# Altium integrated library Actel ProASIC3L.IntLib: 284 symbols (part 21 of 42)
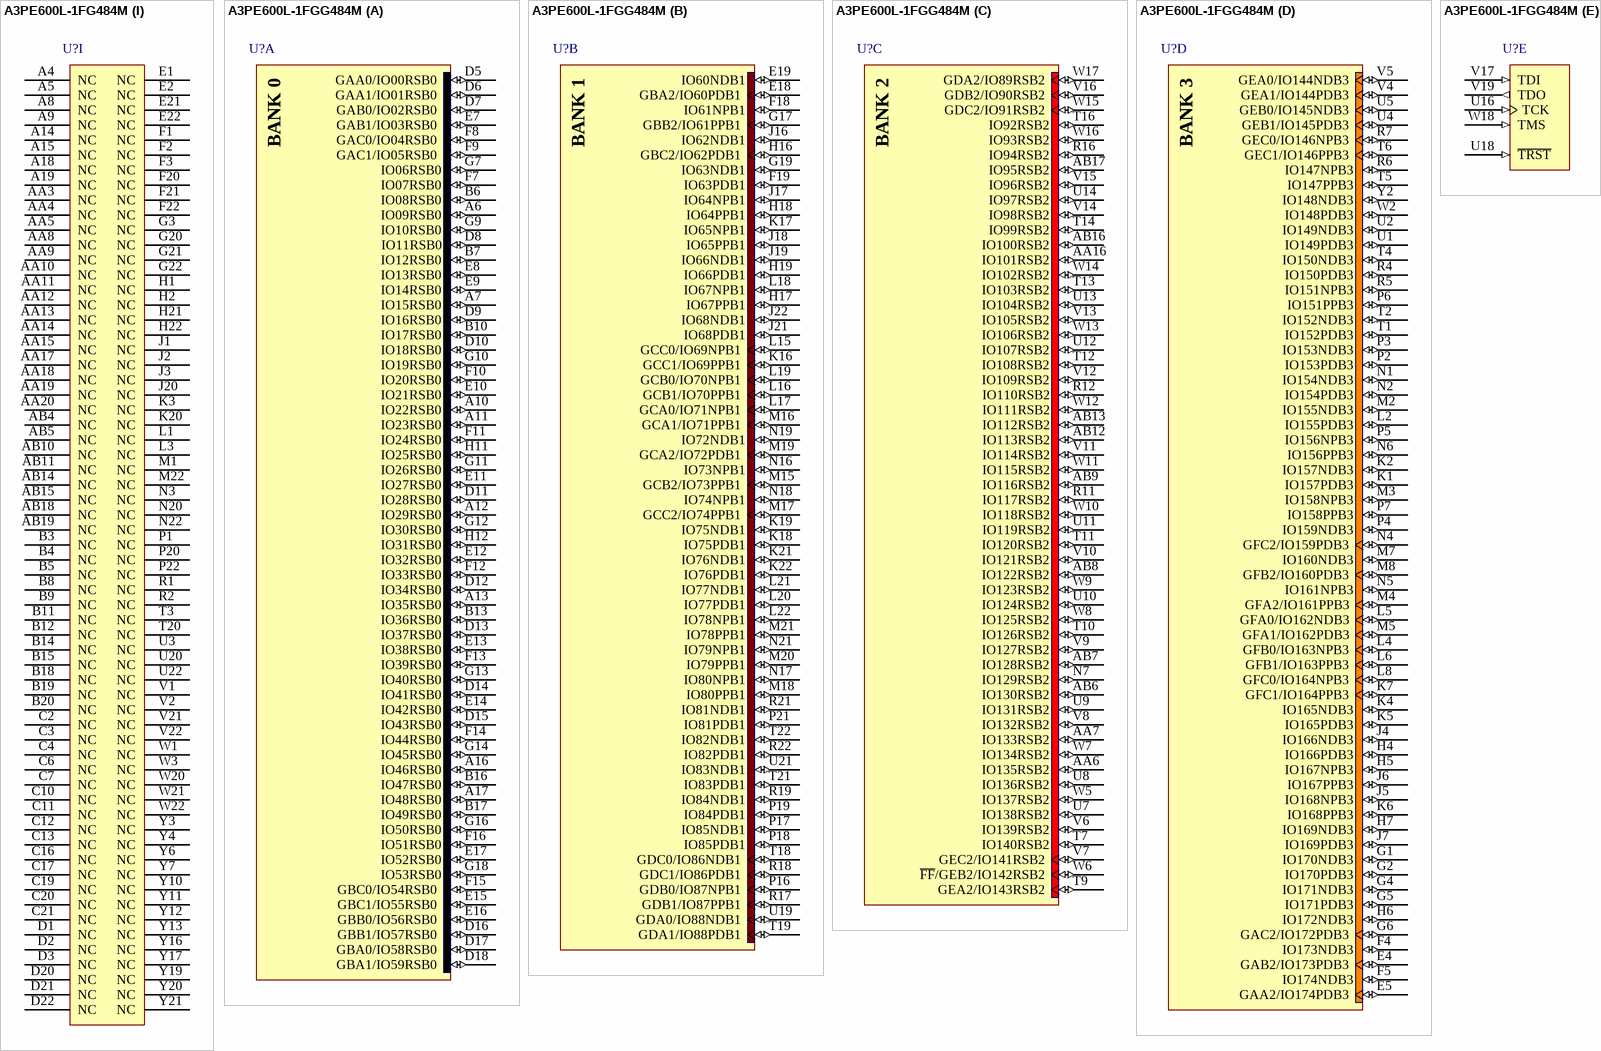
[diagram p270: symbols A3PE600L-1FG484M to A3PE600L-1FGG484M]

## A3PE600L-1FG484M
designator U?
ProASIC3L Low-Power Flash Family FPGA, 270 User IOs, 600K System Gates, 108 Kbits RAM, 1 Kbit FlashROM, 6PLLs, 484-Ball FBGA, Military Grade; Published: 11-Dec-2009; DatasheetVersion: v1.0, Aug-2008; PackageVersion: ver11.2, Nov-2009; PackageReference: FG484; Publisher: Altium Limited; PackageDescription: 484-Ball Fine Pitch Plastic Ball Grid Array (FG484) - Fully Populated; Code_JEDEC: MS-034-AAJ-1; Code_IPC: BGA100P22X22-484; ComponentLink1Description: ProASIC3 Datasheet; ComponentLink1URL: http://www.actel.com/documents/PA3L_DS.pdf; ComponentLink2Description: Package Mechanical Drawings; ComponentLink2URL: http://www.actel.com/documents/PckgMechDrwngs.pdf; ComponentLink3Description: ProASIC3 Documents; ComponentLink3URL: http://www.actel.com/products/pa3l/docs.aspx; ComponentLink4Description: Actel.com Home; ComponentLink4URL: http://www.actel.com/
footprint FG484 (BGA, 484-Leads, Body 23x23mm, Pitch 1mm)
signal-integrity model A3P600L_FG484 (ProASIC3L)
part A pins: A6 IO09RSB0 (io), A7 IO15RSB0 (io), A10 IO22RSB0 (io), A11 IO23RSB0 (io), A12 IO29RSB0 (io), A13 IO35RSB0 (io), A16 IO46RSB0 (io), A17 IO48RSB0 (io), B6 IO08RSB0 (io), B7 IO12RSB0 (io), B10 IO17RSB0 (io), B13 IO36RSB0 (io), B16 IO47RSB0 (io), B17 IO49RSB0 (io), D5 GAA0/IO00RSB0 (io), D6 GAA1/IO01RSB0 (io), D7 GAB0/IO02RSB0 (io), D8 IO11RSB0 (io), D9 IO16RSB0 (io), D10 IO18RSB0 (io), D11 IO28RSB0 (io), D12 IO34RSB0 (io), D13 IO37RSB0 (io), D14 IO41RSB0 (io), D15 IO43RSB0 (io), D16 GBB1/IO57RSB0 (io), D17 GBA0/IO58RSB0 (io), D18 GBA1/IO59RSB0 (io), E7 GAB1/IO03RSB0 (io), E8 IO13RSB0 (io), E9 IO14RSB0 (io), E10 IO21RSB0 (io), E11 IO27RSB0 (io), E12 IO32RSB0 (io), E13 IO38RSB0 (io), E14 IO42RSB0 (io), E15 GBC1/IO55RSB0 (io), E16 GBB0/IO56RSB0 (io), E17 IO52RSB0 (io), F7 IO07RSB0 (io), F8 GAC0/IO04RSB0 (io), F9 GAC1/IO05RSB0 (io), F10 IO20RSB0 (io), F11 IO24RSB0 (io), F12 IO33RSB0 (io), F13 IO39RSB0 (io), F14 IO44RSB0 (io), F15 GBC0/IO54RSB0 (io), F16 IO51RSB0 (io), G7 IO06RSB0 (io), G9 IO10RSB0 (io), G10 IO19RSB0 (io), G11 IO26RSB0 (io), G12 IO30RSB0 (io), G13 IO40RSB0 (io), G14 IO45RSB0 (io), G16 IO50RSB0 (io), G18 IO53RSB0 (io), H11 IO25RSB0 (io), H12 IO31RSB0 (io)
part B pins: E18 GBA2/IO60PDB1 (io), E19 IO60NDB1 (io), F18 IO61NPB1 (io), F19 IO63PDB1 (io), G17 GBB2/IO61PPB1 (io), G19 IO63NDB1 (io), H16 GBC2/IO62PDB1 (io), H17 IO67PPB1 (io), H18 IO64PPB1 (io), H19 IO66PDB1 (io), J16 IO62NDB1 (io), J17 IO64NPB1 (io), J18 IO65PPB1 (io), J19 IO66NDB1 (io), J21 IO68PDB1 (io), J22 IO68NDB1 (io), K16 GCC1/IO69PPB1 (io), K17 IO65NPB1 (io), K18 IO75PDB1 (io), K19 IO75NDB1 (io), K21 IO76NDB1 (io), K22 IO76PDB1 (io), L15 GCC0/IO69NPB1 (io), L16 GCB1/IO70PPB1 (io), L17 GCA0/IO71NPB1 (io), L18 IO67NPB1 (io), L19 GCB0/IO70NPB1 (io), L20 IO77PDB1 (io), L21 IO77NDB1 (io), L22 IO78NPB1 (io), M15 GCB2/IO73PPB1 (io), M16 GCA1/IO71PPB1 (io), M17 GCC2/IO74PPB1 (io), M18 IO80PPB1 (io), M19 GCA2/IO72PDB1 (io), M20 IO79PPB1 (io), M21 IO78PPB1 (io), N16 IO73NPB1 (io), N17 IO80NPB1 (io), N18 IO74NPB1 (io), N19 IO72NDB1 (io), N21 IO79NPB1 (io), P16 GDB0/IO87NPB1 (io), P17 IO85NDB1 (io), P18 IO85PDB1 (io), P19 IO84PDB1 (io), P21 IO81PDB1 (io), R17 GDB1/IO87PPB1 (io), R18 GDC1/IO86PDB1 (io), R19 IO84NDB1 (io), R21 IO81NDB1 (io), R22 IO82PDB1 (io), T18 GDC0/IO86NDB1 (io), T19 GDA1/IO88PDB1 (io), T21 IO83PDB1 (io), T22 IO82NDB1 (io), U19 GDA0/IO88NDB1 (io), U21 IO83NDB1 (io)
part C pins: AA6 IO135RSB2 (io), AA7 IO133RSB2 (io), AA16 IO101RSB2 (io), AB6 IO130RSB2 (io), AB7 IO128RSB2 (io), AB8 IO122RSB2 (io), AB9 IO116RSB2 (io), AB12 IO113RSB2 (io), AB13 IO112RSB2 (io), AB16 IO100RSB2 (io), AB17 IO95RSB2 (io), N7 IO129RSB2 (io), R11 IO117RSB2 (io), R12 IO110RSB2 (io), R16 IO94RSB2 (io), T7 IO140RSB2 (io), T9 GEA2/IO143RSB2 (io), T10 IO126RSB2 (io), T11 IO120RSB2 (io), T12 IO108RSB2 (io), T13 IO103RSB2 (io), T14 IO99RSB2 (io), T16 IO92RSB2 (io), U7 IO138RSB2 (io), U8 IO136RSB2 (io), U9 IO131RSB2 (io), U10 IO124RSB2 (io), U11 IO119RSB2 (io), U12 IO107RSB2 (io), U13 IO104RSB2 (io), U14 IO97RSB2 (io), V6 IO139RSB2 (io), V7 GEC2/IO141RSB2 (io), V8 IO132RSB2 (io), V9 IO127RSB2 (io), V10 IO121RSB2 (io), V11 IO114RSB2 (io), V12 IO109RSB2 (io), V13 IO105RSB2 (io), V14 IO98RSB2 (io), V15 IO96RSB2 (io), V16 GDB2/IO90RSB2 (io), W5 IO137RSB2 (io), W6 ~{FF}/GEB2/IO142RSB2 (io), W7 IO134RSB2 (io), W8 IO125RSB2 (io), W9 IO123RSB2 (io), W10 IO118RSB2 (io), W11 IO115RSB2 (io), W12 IO111RSB2 (io), W13 IO106RSB2 (io), W14 IO102RSB2 (io), W15 GDC2/IO91RSB2 (io), W16 IO93RSB2 (io), W17 GDA2/IO89RSB2 (io)
part D pins: E4 GAB2/IO173PDB3 (io), E5 GAA2/IO174PDB3 (io), F4 IO173NDB3 (io), F5 IO174NDB3 (io), G1 IO170NDB3 (io), G2 IO170PDB3 (io), G4 IO171NDB3 (io), G5 IO171PDB3 (io), G6 GAC2/IO172PDB3 (io), H4 IO166PDB3 (io), H5 IO167NPB3 (io), H6 IO172NDB3 (io), H7 IO169NDB3 (io), J4 IO166NDB3 (io), J5 IO168NPB3 (io), J6 IO167PPB3 (io), J7 IO169PDB3 (io), K1 IO157PDB3 (io), K2 IO157NDB3 (io), K4 IO165NDB3 (io), K5 IO165PDB3 (io), K6 IO168PPB3 (io), K7 GFC1/IO164PPB3 (io), L2 IO155PDB3 (io), L4 GFB0/IO163NPB3 (io), L5 GFA0/IO162NDB3 (io), L6 GFB1/IO163PPB3 (io), L8 GFC0/IO164NPB3 (io), M2 IO155NDB3 (io), M3 IO158NPB3 (io), M4 GFA2/IO161PPB3 (io), M5 GFA1/IO162PDB3 (io), M7 IO160NDB3 (io), M8 GFB2/IO160PDB3 (io), N1 IO154NDB3 (io), N2 IO154PDB3 (io), N4 GFC2/IO159PDB3 (io), N5 IO161NPB3 (io), N6 IO156PPB3 (io), P2 IO153PDB3 (io), P3 IO153NDB3 (io), P4 IO159NDB3 (io), P5 IO156NPB3 (io), P6 IO151PPB3 (io), P7 IO158PPB3 (io), R4 IO150PDB3 (io), R5 IO151NPB3 (io), R6 IO147NPB3 (io), R7 GEC0/IO146NPB3 (io), T1 IO152PDB3 (io), T2 IO152NDB3 (io), T4 IO150NDB3 (io), T5 IO147PPB3 (io), T6 GEC1/IO146PPB3 (io), U1 IO149PDB3 (io), U2 IO149NDB3 (io), U4 GEB1/IO145PDB3 (io), U5 GEB0/IO145NDB3 (io), V4 GEA1/IO144PDB3 (io), V5 GEA0/IO144NDB3 (io), W2 IO148PDB3 (io), Y2 IO148NDB3 (io)
part E pins: U16 TCK (in), U18 ~{TRST} (in), V17 TDI (in), V19 TDO (out), W18 TMS (in)
part F pins: A3 VCCIB0 (power), A20 VCCIB0 (power), AA2 VCCIB3 (power), AA21 VCCIB1 (power), AB3 VCCIB2 (power), AB20 VCCIB2 (power), B2 VCCIB3 (power), B21 VCCIB1 (power), C1 VCCIB3 (power), C8 VCC (power), C9 VCC (power), C14 VCC (power), C15 VCC (power), C22 VCCIB1 (power), F6 VMV3 (power), F17 VMV0 (power), H3 VCC (power), H8 VMV0 (power), H9 VCCIB0 (power), H10 VCCIB0 (power), H13 VCCIB0 (power), H14 VCCIB0 (power), H15 VMV1 (power), H20 VCC (power), J8 VCCIB3 (power), J10 VCC (power), J11 VCC (power), J12 VCC (power), J13 VCC (power), J15 VCCIB1 (power), K8 VCCIB3 (power), K9 VCC (power), K14 VCC (power), K15 VCCIB1 (power), L9 VCC (power), L14 VCC (power), M9 VCC (power), M14 VCC (power), N8 VCCIB3 (power), N9 VCC (power), N14 VCC (power), N15 VCCIB1 (power), P8 VCCIB3 (power), P10 VCC (power), P11 VCC (power), P12 VCC (power), P13 VCC (power), P15 VCCIB1 (power), R3 VCC (power), R8 VMV3 (power), R9 VCCIB2 (power), R10 VCCIB2 (power), R13 VCCIB2 (power), R14 VCCIB2 (power), R15 VMV2 (power), R20 VCC (power), T17 VJTAG (power), U6 VMV2 (power), U15 VMV1 (power), U17 VPUMP (power), Y1 VCCIB3 (power), Y8 VCC (power), Y9 VCC (power), Y14 VCC (power), Y15 VCC (power), Y22 VCCIB1 (power)
part G pins: A1 GND (power), A2 GND (power), A21 GND (power), A22 GND (power), AA1 GND (power), AA22 GND (power), AB1 GND (power), AB2 GND (power), AB21 GND (power), AB22 GND (power), B1 GND (power), B22 GND (power), C5 GND (power), C18 GND (power), D4 GND (power), D19 GND (power), E3 GND (power), E6 GNDQ (power), E20 GND (power), G8 GNDQ (power), G15 GNDQ (power), J9 GND (power), J14 GND (power), K10 GND (power), K11 GND (power), K12 GND (power), K13 GND (power), L10 GND (power), L11 GND (power), L12 GND (power), L13 GND (power), M10 GND (power), M11 GND (power), M12 GND (power), M13 GND (power), N10 GND (power), N11 GND (power), N12 GND (power), N13 GND (power), P9 GND (power), P14 GND (power), T8 GNDQ (power), T15 GNDQ (power), V3 GND (power), V18 GNDQ (power), V20 GND (power), W4 GND (power), W19 GND (power), Y5 GND (power), Y18 GND (power)
part H pins: L7 VCOMPLF (power), M6 VCCPLF (power)
part I pins: A4 NC, A5 NC, A8 NC, A9 NC, A14 NC, A15 NC, A18 NC, A19 NC, AA3 NC, AA4 NC, AA5 NC, AA8 NC, AA9 NC, AA10 NC, AA11 NC, AA12 NC, AA13 NC, AA14 NC, AA15 NC, AA17 NC, AA18 NC, AA19 NC, AA20 NC, AB4 NC, AB5 NC, AB10 NC, AB11 NC, AB14 NC, AB15 NC, AB18 NC, AB19 NC, B3 NC, B4 NC, B5 NC, B8 NC, B9 NC, B11 NC, B12 NC, B14 NC, B15 NC, B18 NC, B19 NC, B20 NC, C2 NC, C3 NC, C4 NC, C6 NC, C7 NC, C10 NC, C11 NC, C12 NC, C13 NC, C16 NC, C17 NC, C19 NC, C20 NC, C21 NC, D1 NC, D2 NC, D3 NC, D20 NC, D21 NC, D22 NC, E1 NC, E2 NC, E21 NC, E22 NC, F1 NC, F2 NC, F3 NC, F20 NC, F21 NC, F22 NC, G3 NC, G20 NC, G21 NC, G22 NC, H1 NC, H2 NC, H21 NC, H22 NC, J1 NC, J2 NC, J3 NC, J20 NC, K3 NC, K20 NC, L1 NC, L3 NC, M1 NC, M22 NC, N3 NC, N20 NC, N22 NC, P1 NC, P20 NC, P22 NC, R1 NC, R2 NC, T3 NC, T20 NC, U3 NC, U20 NC, U22 NC, V1 NC, V2 NC, V21 NC, V22 NC, W1 NC, W3 NC, W20 NC, W21 NC, W22 NC, Y3 NC, Y4 NC, Y6 NC, Y7 NC, Y10 NC, Y11 NC, Y12 NC, Y13 NC, Y16 NC, Y17 NC, Y19 NC, Y20 NC, Y21 NC
part A text: BANK 0
part B text: BANK 1
part C text: BANK 2
part D text: BANK 3

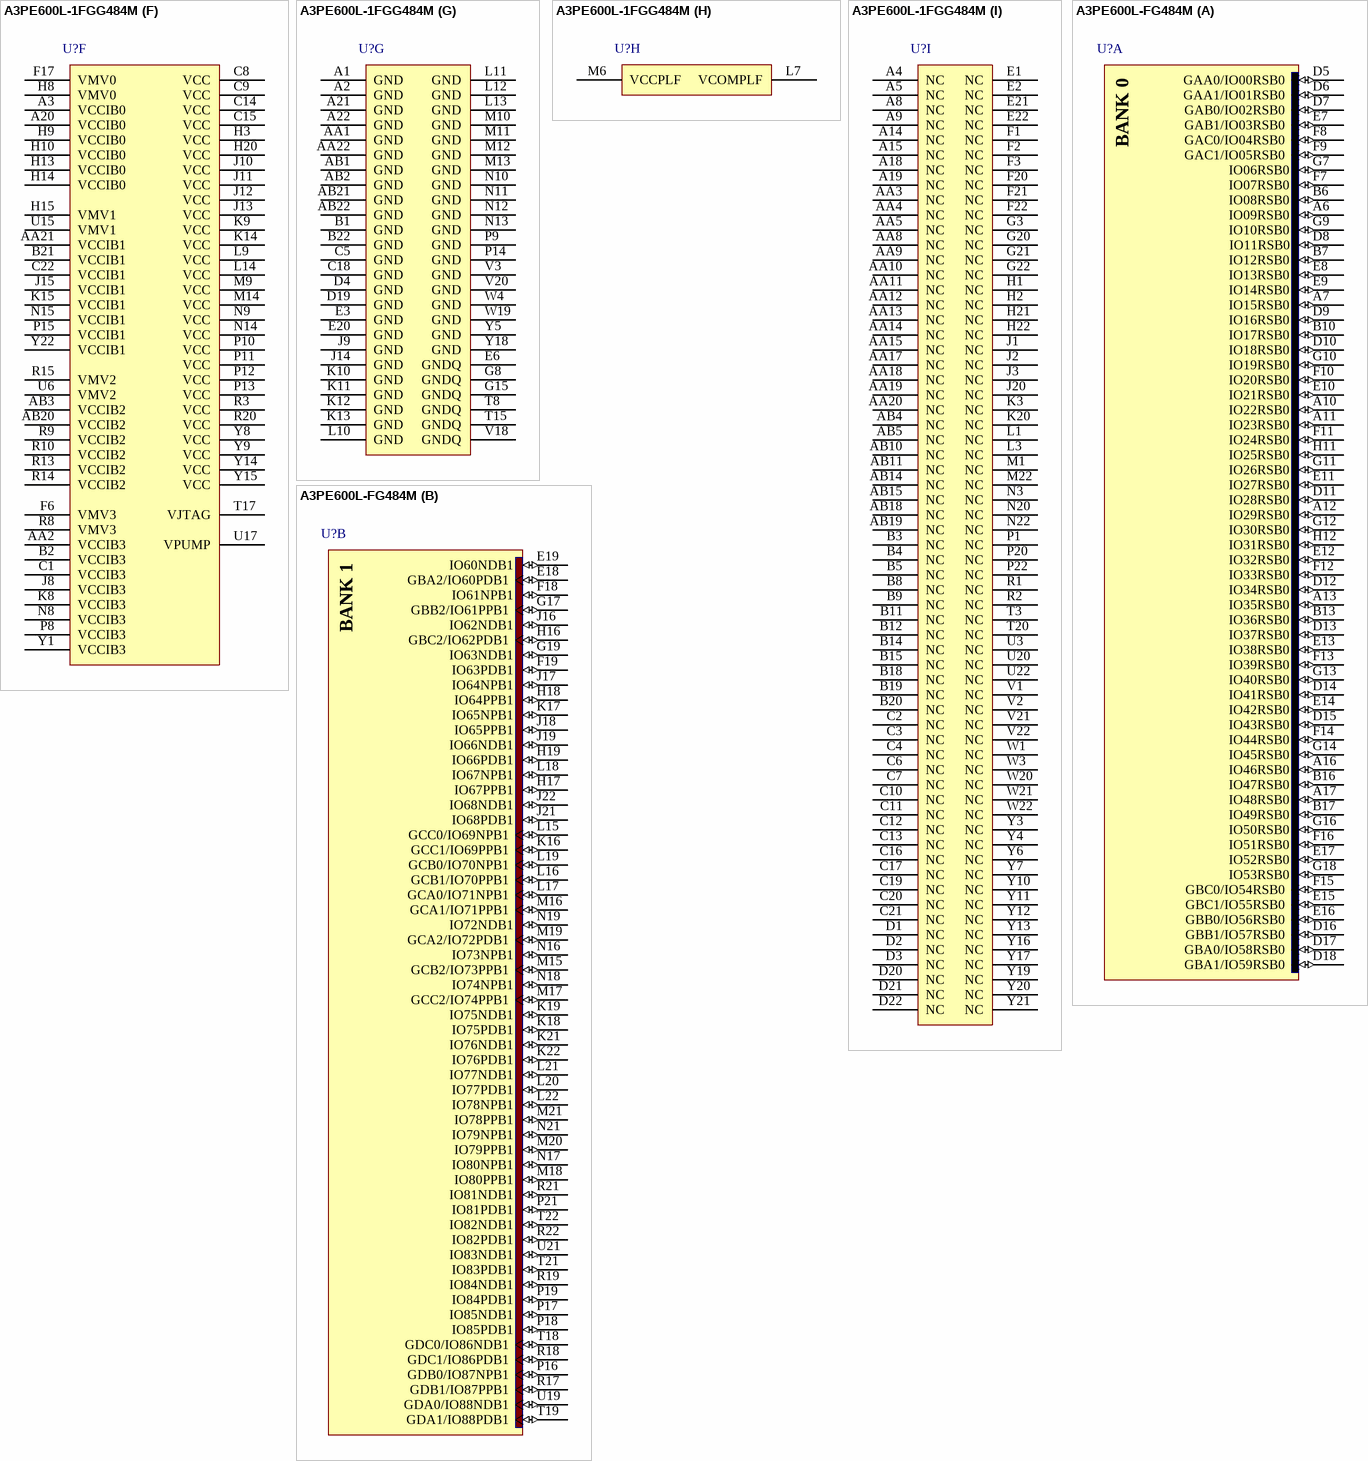
[diagram p75: symbols A3PE600L-1FGG484M to A3PE600L-FG484M]

## A3PE600L-1FGG484M
designator U?
ProASIC3L Low-Power Flash Family FPGA, 270 User IOs, 600K System Gates, 108 Kbits RAM, 1 Kbit FlashROM, 6PLLs, 484-Ball FBGA, Military Grade, Pb-Free; Published: 11-Dec-2009; DatasheetVersion: v1.0, Aug-2008; PackageVersion: ver11.2, Nov-2009; PackageReference: FG484; Publisher: Altium Limited; PackageDescription: 484-Ball Fine Pitch Plastic Ball Grid Array (FG484) - Fully Populated; Code_JEDEC: MS-034-AAJ-1; Code_IPC: BGA100P22X22-484; ComponentLink1Description: ProASIC3 Datasheet; ComponentLink1URL: http://www.actel.com/documents/PA3L_DS.pdf; ComponentLink2Description: Package Mechanical Drawings; ComponentLink2URL: http://www.actel.com/documents/PckgMechDrwngs.pdf; ComponentLink3Description: ProASIC3 Documents; ComponentLink3URL: http://www.actel.com/products/pa3l/docs.aspx; ComponentLink4Description: Actel.com Home; ComponentLink4URL: http://www.actel.com/
footprint FG484 (BGA, 484-Leads, Body 23x23mm, Pitch 1mm)
signal-integrity model A3P600L_FG484 (ProASIC3L)
part A pins: A6 IO09RSB0 (io), A7 IO15RSB0 (io), A10 IO22RSB0 (io), A11 IO23RSB0 (io), A12 IO29RSB0 (io), A13 IO35RSB0 (io), A16 IO46RSB0 (io), A17 IO48RSB0 (io), B6 IO08RSB0 (io), B7 IO12RSB0 (io), B10 IO17RSB0 (io), B13 IO36RSB0 (io), B16 IO47RSB0 (io), B17 IO49RSB0 (io), D5 GAA0/IO00RSB0 (io), D6 GAA1/IO01RSB0 (io), D7 GAB0/IO02RSB0 (io), D8 IO11RSB0 (io), D9 IO16RSB0 (io), D10 IO18RSB0 (io), D11 IO28RSB0 (io), D12 IO34RSB0 (io), D13 IO37RSB0 (io), D14 IO41RSB0 (io), D15 IO43RSB0 (io), D16 GBB1/IO57RSB0 (io), D17 GBA0/IO58RSB0 (io), D18 GBA1/IO59RSB0 (io), E7 GAB1/IO03RSB0 (io), E8 IO13RSB0 (io), E9 IO14RSB0 (io), E10 IO21RSB0 (io), E11 IO27RSB0 (io), E12 IO32RSB0 (io), E13 IO38RSB0 (io), E14 IO42RSB0 (io), E15 GBC1/IO55RSB0 (io), E16 GBB0/IO56RSB0 (io), E17 IO52RSB0 (io), F7 IO07RSB0 (io), F8 GAC0/IO04RSB0 (io), F9 GAC1/IO05RSB0 (io), F10 IO20RSB0 (io), F11 IO24RSB0 (io), F12 IO33RSB0 (io), F13 IO39RSB0 (io), F14 IO44RSB0 (io), F15 GBC0/IO54RSB0 (io), F16 IO51RSB0 (io), G7 IO06RSB0 (io), G9 IO10RSB0 (io), G10 IO19RSB0 (io), G11 IO26RSB0 (io), G12 IO30RSB0 (io), G13 IO40RSB0 (io), G14 IO45RSB0 (io), G16 IO50RSB0 (io), G18 IO53RSB0 (io), H11 IO25RSB0 (io), H12 IO31RSB0 (io)
part B pins: E18 GBA2/IO60PDB1 (io), E19 IO60NDB1 (io), F18 IO61NPB1 (io), F19 IO63PDB1 (io), G17 GBB2/IO61PPB1 (io), G19 IO63NDB1 (io), H16 GBC2/IO62PDB1 (io), H17 IO67PPB1 (io), H18 IO64PPB1 (io), H19 IO66PDB1 (io), J16 IO62NDB1 (io), J17 IO64NPB1 (io), J18 IO65PPB1 (io), J19 IO66NDB1 (io), J21 IO68PDB1 (io), J22 IO68NDB1 (io), K16 GCC1/IO69PPB1 (io), K17 IO65NPB1 (io), K18 IO75PDB1 (io), K19 IO75NDB1 (io), K21 IO76NDB1 (io), K22 IO76PDB1 (io), L15 GCC0/IO69NPB1 (io), L16 GCB1/IO70PPB1 (io), L17 GCA0/IO71NPB1 (io), L18 IO67NPB1 (io), L19 GCB0/IO70NPB1 (io), L20 IO77PDB1 (io), L21 IO77NDB1 (io), L22 IO78NPB1 (io), M15 GCB2/IO73PPB1 (io), M16 GCA1/IO71PPB1 (io), M17 GCC2/IO74PPB1 (io), M18 IO80PPB1 (io), M19 GCA2/IO72PDB1 (io), M20 IO79PPB1 (io), M21 IO78PPB1 (io), N16 IO73NPB1 (io), N17 IO80NPB1 (io), N18 IO74NPB1 (io), N19 IO72NDB1 (io), N21 IO79NPB1 (io), P16 GDB0/IO87NPB1 (io), P17 IO85NDB1 (io), P18 IO85PDB1 (io), P19 IO84PDB1 (io), P21 IO81PDB1 (io), R17 GDB1/IO87PPB1 (io), R18 GDC1/IO86PDB1 (io), R19 IO84NDB1 (io), R21 IO81NDB1 (io), R22 IO82PDB1 (io), T18 GDC0/IO86NDB1 (io), T19 GDA1/IO88PDB1 (io), T21 IO83PDB1 (io), T22 IO82NDB1 (io), U19 GDA0/IO88NDB1 (io), U21 IO83NDB1 (io)
part C pins: AA6 IO135RSB2 (io), AA7 IO133RSB2 (io), AA16 IO101RSB2 (io), AB6 IO130RSB2 (io), AB7 IO128RSB2 (io), AB8 IO122RSB2 (io), AB9 IO116RSB2 (io), AB12 IO113RSB2 (io), AB13 IO112RSB2 (io), AB16 IO100RSB2 (io), AB17 IO95RSB2 (io), N7 IO129RSB2 (io), R11 IO117RSB2 (io), R12 IO110RSB2 (io), R16 IO94RSB2 (io), T7 IO140RSB2 (io), T9 GEA2/IO143RSB2 (io), T10 IO126RSB2 (io), T11 IO120RSB2 (io), T12 IO108RSB2 (io), T13 IO103RSB2 (io), T14 IO99RSB2 (io), T16 IO92RSB2 (io), U7 IO138RSB2 (io), U8 IO136RSB2 (io), U9 IO131RSB2 (io), U10 IO124RSB2 (io), U11 IO119RSB2 (io), U12 IO107RSB2 (io), U13 IO104RSB2 (io), U14 IO97RSB2 (io), V6 IO139RSB2 (io), V7 GEC2/IO141RSB2 (io), V8 IO132RSB2 (io), V9 IO127RSB2 (io), V10 IO121RSB2 (io), V11 IO114RSB2 (io), V12 IO109RSB2 (io), V13 IO105RSB2 (io), V14 IO98RSB2 (io), V15 IO96RSB2 (io), V16 GDB2/IO90RSB2 (io), W5 IO137RSB2 (io), W6 ~{FF}/GEB2/IO142RSB2 (io), W7 IO134RSB2 (io), W8 IO125RSB2 (io), W9 IO123RSB2 (io), W10 IO118RSB2 (io), W11 IO115RSB2 (io), W12 IO111RSB2 (io), W13 IO106RSB2 (io), W14 IO102RSB2 (io), W15 GDC2/IO91RSB2 (io), W16 IO93RSB2 (io), W17 GDA2/IO89RSB2 (io)
part D pins: E4 GAB2/IO173PDB3 (io), E5 GAA2/IO174PDB3 (io), F4 IO173NDB3 (io), F5 IO174NDB3 (io), G1 IO170NDB3 (io), G2 IO170PDB3 (io), G4 IO171NDB3 (io), G5 IO171PDB3 (io), G6 GAC2/IO172PDB3 (io), H4 IO166PDB3 (io), H5 IO167NPB3 (io), H6 IO172NDB3 (io), H7 IO169NDB3 (io), J4 IO166NDB3 (io), J5 IO168NPB3 (io), J6 IO167PPB3 (io), J7 IO169PDB3 (io), K1 IO157PDB3 (io), K2 IO157NDB3 (io), K4 IO165NDB3 (io), K5 IO165PDB3 (io), K6 IO168PPB3 (io), K7 GFC1/IO164PPB3 (io), L2 IO155PDB3 (io), L4 GFB0/IO163NPB3 (io), L5 GFA0/IO162NDB3 (io), L6 GFB1/IO163PPB3 (io), L8 GFC0/IO164NPB3 (io), M2 IO155NDB3 (io), M3 IO158NPB3 (io), M4 GFA2/IO161PPB3 (io), M5 GFA1/IO162PDB3 (io), M7 IO160NDB3 (io), M8 GFB2/IO160PDB3 (io), N1 IO154NDB3 (io), N2 IO154PDB3 (io), N4 GFC2/IO159PDB3 (io), N5 IO161NPB3 (io), N6 IO156PPB3 (io), P2 IO153PDB3 (io), P3 IO153NDB3 (io), P4 IO159NDB3 (io), P5 IO156NPB3 (io), P6 IO151PPB3 (io), P7 IO158PPB3 (io), R4 IO150PDB3 (io), R5 IO151NPB3 (io), R6 IO147NPB3 (io), R7 GEC0/IO146NPB3 (io), T1 IO152PDB3 (io), T2 IO152NDB3 (io), T4 IO150NDB3 (io), T5 IO147PPB3 (io), T6 GEC1/IO146PPB3 (io), U1 IO149PDB3 (io), U2 IO149NDB3 (io), U4 GEB1/IO145PDB3 (io), U5 GEB0/IO145NDB3 (io), V4 GEA1/IO144PDB3 (io), V5 GEA0/IO144NDB3 (io), W2 IO148PDB3 (io), Y2 IO148NDB3 (io)
part E pins: U16 TCK (in), U18 ~{TRST} (in), V17 TDI (in), V19 TDO (out), W18 TMS (in)
part F pins: A3 VCCIB0 (power), A20 VCCIB0 (power), AA2 VCCIB3 (power), AA21 VCCIB1 (power), AB3 VCCIB2 (power), AB20 VCCIB2 (power), B2 VCCIB3 (power), B21 VCCIB1 (power), C1 VCCIB3 (power), C8 VCC (power), C9 VCC (power), C14 VCC (power), C15 VCC (power), C22 VCCIB1 (power), F6 VMV3 (power), F17 VMV0 (power), H3 VCC (power), H8 VMV0 (power), H9 VCCIB0 (power), H10 VCCIB0 (power), H13 VCCIB0 (power), H14 VCCIB0 (power), H15 VMV1 (power), H20 VCC (power), J8 VCCIB3 (power), J10 VCC (power), J11 VCC (power), J12 VCC (power), J13 VCC (power), J15 VCCIB1 (power), K8 VCCIB3 (power), K9 VCC (power), K14 VCC (power), K15 VCCIB1 (power), L9 VCC (power), L14 VCC (power), M9 VCC (power), M14 VCC (power), N8 VCCIB3 (power), N9 VCC (power), N14 VCC (power), N15 VCCIB1 (power), P8 VCCIB3 (power), P10 VCC (power), P11 VCC (power), P12 VCC (power), P13 VCC (power), P15 VCCIB1 (power), R3 VCC (power), R8 VMV3 (power), R9 VCCIB2 (power), R10 VCCIB2 (power), R13 VCCIB2 (power), R14 VCCIB2 (power), R15 VMV2 (power), R20 VCC (power), T17 VJTAG (power), U6 VMV2 (power), U15 VMV1 (power), U17 VPUMP (power), Y1 VCCIB3 (power), Y8 VCC (power), Y9 VCC (power), Y14 VCC (power), Y15 VCC (power), Y22 VCCIB1 (power)
part G pins: A1 GND (power), A2 GND (power), A21 GND (power), A22 GND (power), AA1 GND (power), AA22 GND (power), AB1 GND (power), AB2 GND (power), AB21 GND (power), AB22 GND (power), B1 GND (power), B22 GND (power), C5 GND (power), C18 GND (power), D4 GND (power), D19 GND (power), E3 GND (power), E6 GNDQ (power), E20 GND (power), G8 GNDQ (power), G15 GNDQ (power), J9 GND (power), J14 GND (power), K10 GND (power), K11 GND (power), K12 GND (power), K13 GND (power), L10 GND (power), L11 GND (power), L12 GND (power), L13 GND (power), M10 GND (power), M11 GND (power), M12 GND (power), M13 GND (power), N10 GND (power), N11 GND (power), N12 GND (power), N13 GND (power), P9 GND (power), P14 GND (power), T8 GNDQ (power), T15 GNDQ (power), V3 GND (power), V18 GNDQ (power), V20 GND (power), W4 GND (power), W19 GND (power), Y5 GND (power), Y18 GND (power)
part H pins: L7 VCOMPLF (power), M6 VCCPLF (power)
part I pins: A4 NC, A5 NC, A8 NC, A9 NC, A14 NC, A15 NC, A18 NC, A19 NC, AA3 NC, AA4 NC, AA5 NC, AA8 NC, AA9 NC, AA10 NC, AA11 NC, AA12 NC, AA13 NC, AA14 NC, AA15 NC, AA17 NC, AA18 NC, AA19 NC, AA20 NC, AB4 NC, AB5 NC, AB10 NC, AB11 NC, AB14 NC, AB15 NC, AB18 NC, AB19 NC, B3 NC, B4 NC, B5 NC, B8 NC, B9 NC, B11 NC, B12 NC, B14 NC, B15 NC, B18 NC, B19 NC, B20 NC, C2 NC, C3 NC, C4 NC, C6 NC, C7 NC, C10 NC, C11 NC, C12 NC, C13 NC, C16 NC, C17 NC, C19 NC, C20 NC, C21 NC, D1 NC, D2 NC, D3 NC, D20 NC, D21 NC, D22 NC, E1 NC, E2 NC, E21 NC, E22 NC, F1 NC, F2 NC, F3 NC, F20 NC, F21 NC, F22 NC, G3 NC, G20 NC, G21 NC, G22 NC, H1 NC, H2 NC, H21 NC, H22 NC, J1 NC, J2 NC, J3 NC, J20 NC, K3 NC, K20 NC, L1 NC, L3 NC, M1 NC, M22 NC, N3 NC, N20 NC, N22 NC, P1 NC, P20 NC, P22 NC, R1 NC, R2 NC, T3 NC, T20 NC, U3 NC, U20 NC, U22 NC, V1 NC, V2 NC, V21 NC, V22 NC, W1 NC, W3 NC, W20 NC, W21 NC, W22 NC, Y3 NC, Y4 NC, Y6 NC, Y7 NC, Y10 NC, Y11 NC, Y12 NC, Y13 NC, Y16 NC, Y17 NC, Y19 NC, Y20 NC, Y21 NC
part A text: BANK 0
part B text: BANK 1
part C text: BANK 2
part D text: BANK 3

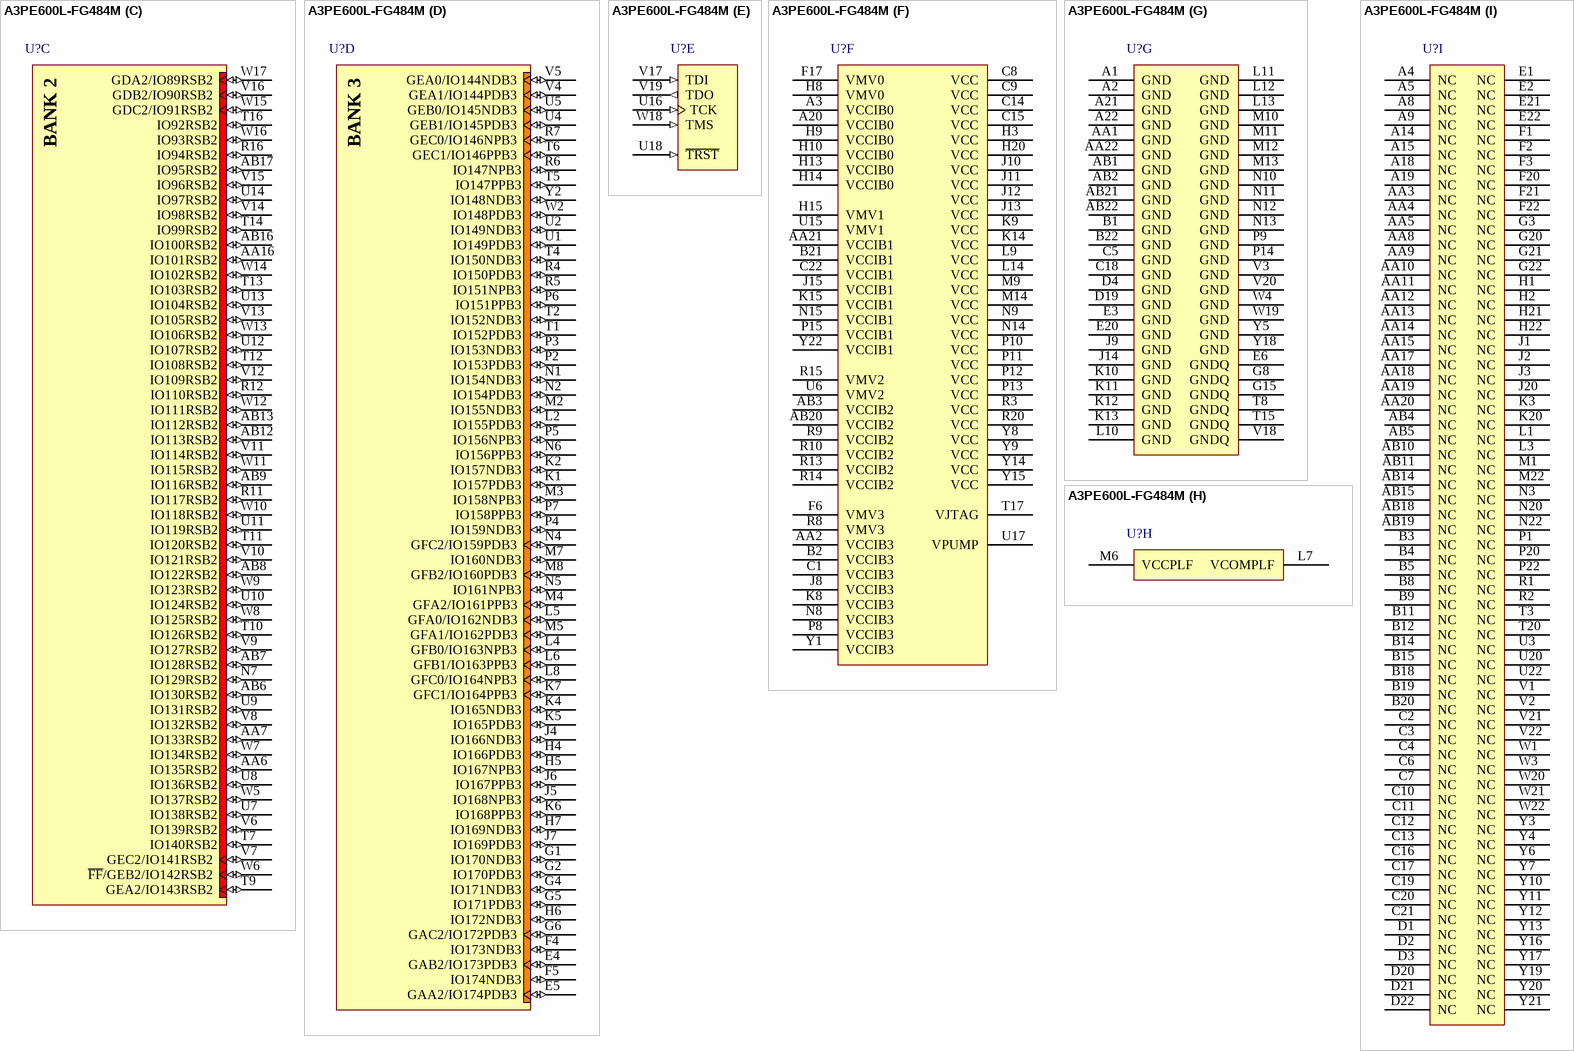
[diagram p76: symbol A3PE600L-FG484M]

## A3PE600L-FG484M
designator U?
ProASIC3L Low-Power Flash Family FPGA, 270 User IOs, 600K System Gates, 108 Kbits RAM, 1 Kbit FlashROM, 6PLLs, 484-Ball FBGA, Military Grade; Published: 11-Dec-2009; DatasheetVersion: v1.0, Aug-2008; PackageVersion: ver11.2, Nov-2009; PackageReference: FG484; Publisher: Altium Limited; PackageDescription: 484-Ball Fine Pitch Plastic Ball Grid Array (FG484) - Fully Populated; Code_JEDEC: MS-034-AAJ-1; Code_IPC: BGA100P22X22-484; ComponentLink1Description: ProASIC3 Datasheet; ComponentLink1URL: http://www.actel.com/documents/PA3L_DS.pdf; ComponentLink2Description: Package Mechanical Drawings; ComponentLink2URL: http://www.actel.com/documents/PckgMechDrwngs.pdf; ComponentLink3Description: ProASIC3 Documents; ComponentLink3URL: http://www.actel.com/products/pa3l/docs.aspx; ComponentLink4Description: Actel.com Home; ComponentLink4URL: http://www.actel.com/
footprint FG484 (BGA, 484-Leads, Body 23x23mm, Pitch 1mm)
signal-integrity model A3P600L_FG484 (ProASIC3L)
part A pins: A6 IO09RSB0 (io), A7 IO15RSB0 (io), A10 IO22RSB0 (io), A11 IO23RSB0 (io), A12 IO29RSB0 (io), A13 IO35RSB0 (io), A16 IO46RSB0 (io), A17 IO48RSB0 (io), B6 IO08RSB0 (io), B7 IO12RSB0 (io), B10 IO17RSB0 (io), B13 IO36RSB0 (io), B16 IO47RSB0 (io), B17 IO49RSB0 (io), D5 GAA0/IO00RSB0 (io), D6 GAA1/IO01RSB0 (io), D7 GAB0/IO02RSB0 (io), D8 IO11RSB0 (io), D9 IO16RSB0 (io), D10 IO18RSB0 (io), D11 IO28RSB0 (io), D12 IO34RSB0 (io), D13 IO37RSB0 (io), D14 IO41RSB0 (io), D15 IO43RSB0 (io), D16 GBB1/IO57RSB0 (io), D17 GBA0/IO58RSB0 (io), D18 GBA1/IO59RSB0 (io), E7 GAB1/IO03RSB0 (io), E8 IO13RSB0 (io), E9 IO14RSB0 (io), E10 IO21RSB0 (io), E11 IO27RSB0 (io), E12 IO32RSB0 (io), E13 IO38RSB0 (io), E14 IO42RSB0 (io), E15 GBC1/IO55RSB0 (io), E16 GBB0/IO56RSB0 (io), E17 IO52RSB0 (io), F7 IO07RSB0 (io), F8 GAC0/IO04RSB0 (io), F9 GAC1/IO05RSB0 (io), F10 IO20RSB0 (io), F11 IO24RSB0 (io), F12 IO33RSB0 (io), F13 IO39RSB0 (io), F14 IO44RSB0 (io), F15 GBC0/IO54RSB0 (io), F16 IO51RSB0 (io), G7 IO06RSB0 (io), G9 IO10RSB0 (io), G10 IO19RSB0 (io), G11 IO26RSB0 (io), G12 IO30RSB0 (io), G13 IO40RSB0 (io), G14 IO45RSB0 (io), G16 IO50RSB0 (io), G18 IO53RSB0 (io), H11 IO25RSB0 (io), H12 IO31RSB0 (io)
part B pins: E18 GBA2/IO60PDB1 (io), E19 IO60NDB1 (io), F18 IO61NPB1 (io), F19 IO63PDB1 (io), G17 GBB2/IO61PPB1 (io), G19 IO63NDB1 (io), H16 GBC2/IO62PDB1 (io), H17 IO67PPB1 (io), H18 IO64PPB1 (io), H19 IO66PDB1 (io), J16 IO62NDB1 (io), J17 IO64NPB1 (io), J18 IO65PPB1 (io), J19 IO66NDB1 (io), J21 IO68PDB1 (io), J22 IO68NDB1 (io), K16 GCC1/IO69PPB1 (io), K17 IO65NPB1 (io), K18 IO75PDB1 (io), K19 IO75NDB1 (io), K21 IO76NDB1 (io), K22 IO76PDB1 (io), L15 GCC0/IO69NPB1 (io), L16 GCB1/IO70PPB1 (io), L17 GCA0/IO71NPB1 (io), L18 IO67NPB1 (io), L19 GCB0/IO70NPB1 (io), L20 IO77PDB1 (io), L21 IO77NDB1 (io), L22 IO78NPB1 (io), M15 GCB2/IO73PPB1 (io), M16 GCA1/IO71PPB1 (io), M17 GCC2/IO74PPB1 (io), M18 IO80PPB1 (io), M19 GCA2/IO72PDB1 (io), M20 IO79PPB1 (io), M21 IO78PPB1 (io), N16 IO73NPB1 (io), N17 IO80NPB1 (io), N18 IO74NPB1 (io), N19 IO72NDB1 (io), N21 IO79NPB1 (io), P16 GDB0/IO87NPB1 (io), P17 IO85NDB1 (io), P18 IO85PDB1 (io), P19 IO84PDB1 (io), P21 IO81PDB1 (io), R17 GDB1/IO87PPB1 (io), R18 GDC1/IO86PDB1 (io), R19 IO84NDB1 (io), R21 IO81NDB1 (io), R22 IO82PDB1 (io), T18 GDC0/IO86NDB1 (io), T19 GDA1/IO88PDB1 (io), T21 IO83PDB1 (io), T22 IO82NDB1 (io), U19 GDA0/IO88NDB1 (io), U21 IO83NDB1 (io)
part C pins: AA6 IO135RSB2 (io), AA7 IO133RSB2 (io), AA16 IO101RSB2 (io), AB6 IO130RSB2 (io), AB7 IO128RSB2 (io), AB8 IO122RSB2 (io), AB9 IO116RSB2 (io), AB12 IO113RSB2 (io), AB13 IO112RSB2 (io), AB16 IO100RSB2 (io), AB17 IO95RSB2 (io), N7 IO129RSB2 (io), R11 IO117RSB2 (io), R12 IO110RSB2 (io), R16 IO94RSB2 (io), T7 IO140RSB2 (io), T9 GEA2/IO143RSB2 (io), T10 IO126RSB2 (io), T11 IO120RSB2 (io), T12 IO108RSB2 (io), T13 IO103RSB2 (io), T14 IO99RSB2 (io), T16 IO92RSB2 (io), U7 IO138RSB2 (io), U8 IO136RSB2 (io), U9 IO131RSB2 (io), U10 IO124RSB2 (io), U11 IO119RSB2 (io), U12 IO107RSB2 (io), U13 IO104RSB2 (io), U14 IO97RSB2 (io), V6 IO139RSB2 (io), V7 GEC2/IO141RSB2 (io), V8 IO132RSB2 (io), V9 IO127RSB2 (io), V10 IO121RSB2 (io), V11 IO114RSB2 (io), V12 IO109RSB2 (io), V13 IO105RSB2 (io), V14 IO98RSB2 (io), V15 IO96RSB2 (io), V16 GDB2/IO90RSB2 (io), W5 IO137RSB2 (io), W6 ~{FF}/GEB2/IO142RSB2 (io), W7 IO134RSB2 (io), W8 IO125RSB2 (io), W9 IO123RSB2 (io), W10 IO118RSB2 (io), W11 IO115RSB2 (io), W12 IO111RSB2 (io), W13 IO106RSB2 (io), W14 IO102RSB2 (io), W15 GDC2/IO91RSB2 (io), W16 IO93RSB2 (io), W17 GDA2/IO89RSB2 (io)
part D pins: E4 GAB2/IO173PDB3 (io), E5 GAA2/IO174PDB3 (io), F4 IO173NDB3 (io), F5 IO174NDB3 (io), G1 IO170NDB3 (io), G2 IO170PDB3 (io), G4 IO171NDB3 (io), G5 IO171PDB3 (io), G6 GAC2/IO172PDB3 (io), H4 IO166PDB3 (io), H5 IO167NPB3 (io), H6 IO172NDB3 (io), H7 IO169NDB3 (io), J4 IO166NDB3 (io), J5 IO168NPB3 (io), J6 IO167PPB3 (io), J7 IO169PDB3 (io), K1 IO157PDB3 (io), K2 IO157NDB3 (io), K4 IO165NDB3 (io), K5 IO165PDB3 (io), K6 IO168PPB3 (io), K7 GFC1/IO164PPB3 (io), L2 IO155PDB3 (io), L4 GFB0/IO163NPB3 (io), L5 GFA0/IO162NDB3 (io), L6 GFB1/IO163PPB3 (io), L8 GFC0/IO164NPB3 (io), M2 IO155NDB3 (io), M3 IO158NPB3 (io), M4 GFA2/IO161PPB3 (io), M5 GFA1/IO162PDB3 (io), M7 IO160NDB3 (io), M8 GFB2/IO160PDB3 (io), N1 IO154NDB3 (io), N2 IO154PDB3 (io), N4 GFC2/IO159PDB3 (io), N5 IO161NPB3 (io), N6 IO156PPB3 (io), P2 IO153PDB3 (io), P3 IO153NDB3 (io), P4 IO159NDB3 (io), P5 IO156NPB3 (io), P6 IO151PPB3 (io), P7 IO158PPB3 (io), R4 IO150PDB3 (io), R5 IO151NPB3 (io), R6 IO147NPB3 (io), R7 GEC0/IO146NPB3 (io), T1 IO152PDB3 (io), T2 IO152NDB3 (io), T4 IO150NDB3 (io), T5 IO147PPB3 (io), T6 GEC1/IO146PPB3 (io), U1 IO149PDB3 (io), U2 IO149NDB3 (io), U4 GEB1/IO145PDB3 (io), U5 GEB0/IO145NDB3 (io), V4 GEA1/IO144PDB3 (io), V5 GEA0/IO144NDB3 (io), W2 IO148PDB3 (io), Y2 IO148NDB3 (io)
part E pins: U16 TCK (in), U18 ~{TRST} (in), V17 TDI (in), V19 TDO (out), W18 TMS (in)
part F pins: A3 VCCIB0 (power), A20 VCCIB0 (power), AA2 VCCIB3 (power), AA21 VCCIB1 (power), AB3 VCCIB2 (power), AB20 VCCIB2 (power), B2 VCCIB3 (power), B21 VCCIB1 (power), C1 VCCIB3 (power), C8 VCC (power), C9 VCC (power), C14 VCC (power), C15 VCC (power), C22 VCCIB1 (power), F6 VMV3 (power), F17 VMV0 (power), H3 VCC (power), H8 VMV0 (power), H9 VCCIB0 (power), H10 VCCIB0 (power), H13 VCCIB0 (power), H14 VCCIB0 (power), H15 VMV1 (power), H20 VCC (power), J8 VCCIB3 (power), J10 VCC (power), J11 VCC (power), J12 VCC (power), J13 VCC (power), J15 VCCIB1 (power), K8 VCCIB3 (power), K9 VCC (power), K14 VCC (power), K15 VCCIB1 (power), L9 VCC (power), L14 VCC (power), M9 VCC (power), M14 VCC (power), N8 VCCIB3 (power), N9 VCC (power), N14 VCC (power), N15 VCCIB1 (power), P8 VCCIB3 (power), P10 VCC (power), P11 VCC (power), P12 VCC (power), P13 VCC (power), P15 VCCIB1 (power), R3 VCC (power), R8 VMV3 (power), R9 VCCIB2 (power), R10 VCCIB2 (power), R13 VCCIB2 (power), R14 VCCIB2 (power), R15 VMV2 (power), R20 VCC (power), T17 VJTAG (power), U6 VMV2 (power), U15 VMV1 (power), U17 VPUMP (power), Y1 VCCIB3 (power), Y8 VCC (power), Y9 VCC (power), Y14 VCC (power), Y15 VCC (power), Y22 VCCIB1 (power)
part G pins: A1 GND (power), A2 GND (power), A21 GND (power), A22 GND (power), AA1 GND (power), AA22 GND (power), AB1 GND (power), AB2 GND (power), AB21 GND (power), AB22 GND (power), B1 GND (power), B22 GND (power), C5 GND (power), C18 GND (power), D4 GND (power), D19 GND (power), E3 GND (power), E6 GNDQ (power), E20 GND (power), G8 GNDQ (power), G15 GNDQ (power), J9 GND (power), J14 GND (power), K10 GND (power), K11 GND (power), K12 GND (power), K13 GND (power), L10 GND (power), L11 GND (power), L12 GND (power), L13 GND (power), M10 GND (power), M11 GND (power), M12 GND (power), M13 GND (power), N10 GND (power), N11 GND (power), N12 GND (power), N13 GND (power), P9 GND (power), P14 GND (power), T8 GNDQ (power), T15 GNDQ (power), V3 GND (power), V18 GNDQ (power), V20 GND (power), W4 GND (power), W19 GND (power), Y5 GND (power), Y18 GND (power)
part H pins: L7 VCOMPLF (power), M6 VCCPLF (power)
part I pins: A4 NC, A5 NC, A8 NC, A9 NC, A14 NC, A15 NC, A18 NC, A19 NC, AA3 NC, AA4 NC, AA5 NC, AA8 NC, AA9 NC, AA10 NC, AA11 NC, AA12 NC, AA13 NC, AA14 NC, AA15 NC, AA17 NC, AA18 NC, AA19 NC, AA20 NC, AB4 NC, AB5 NC, AB10 NC, AB11 NC, AB14 NC, AB15 NC, AB18 NC, AB19 NC, B3 NC, B4 NC, B5 NC, B8 NC, B9 NC, B11 NC, B12 NC, B14 NC, B15 NC, B18 NC, B19 NC, B20 NC, C2 NC, C3 NC, C4 NC, C6 NC, C7 NC, C10 NC, C11 NC, C12 NC, C13 NC, C16 NC, C17 NC, C19 NC, C20 NC, C21 NC, D1 NC, D2 NC, D3 NC, D20 NC, D21 NC, D22 NC, E1 NC, E2 NC, E21 NC, E22 NC, F1 NC, F2 NC, F3 NC, F20 NC, F21 NC, F22 NC, G3 NC, G20 NC, G21 NC, G22 NC, H1 NC, H2 NC, H21 NC, H22 NC, J1 NC, J2 NC, J3 NC, J20 NC, K3 NC, K20 NC, L1 NC, L3 NC, M1 NC, M22 NC, N3 NC, N20 NC, N22 NC, P1 NC, P20 NC, P22 NC, R1 NC, R2 NC, T3 NC, T20 NC, U3 NC, U20 NC, U22 NC, V1 NC, V2 NC, V21 NC, V22 NC, W1 NC, W3 NC, W20 NC, W21 NC, W22 NC, Y3 NC, Y4 NC, Y6 NC, Y7 NC, Y10 NC, Y11 NC, Y12 NC, Y13 NC, Y16 NC, Y17 NC, Y19 NC, Y20 NC, Y21 NC
part A text: BANK 0
part B text: BANK 1
part C text: BANK 2
part D text: BANK 3

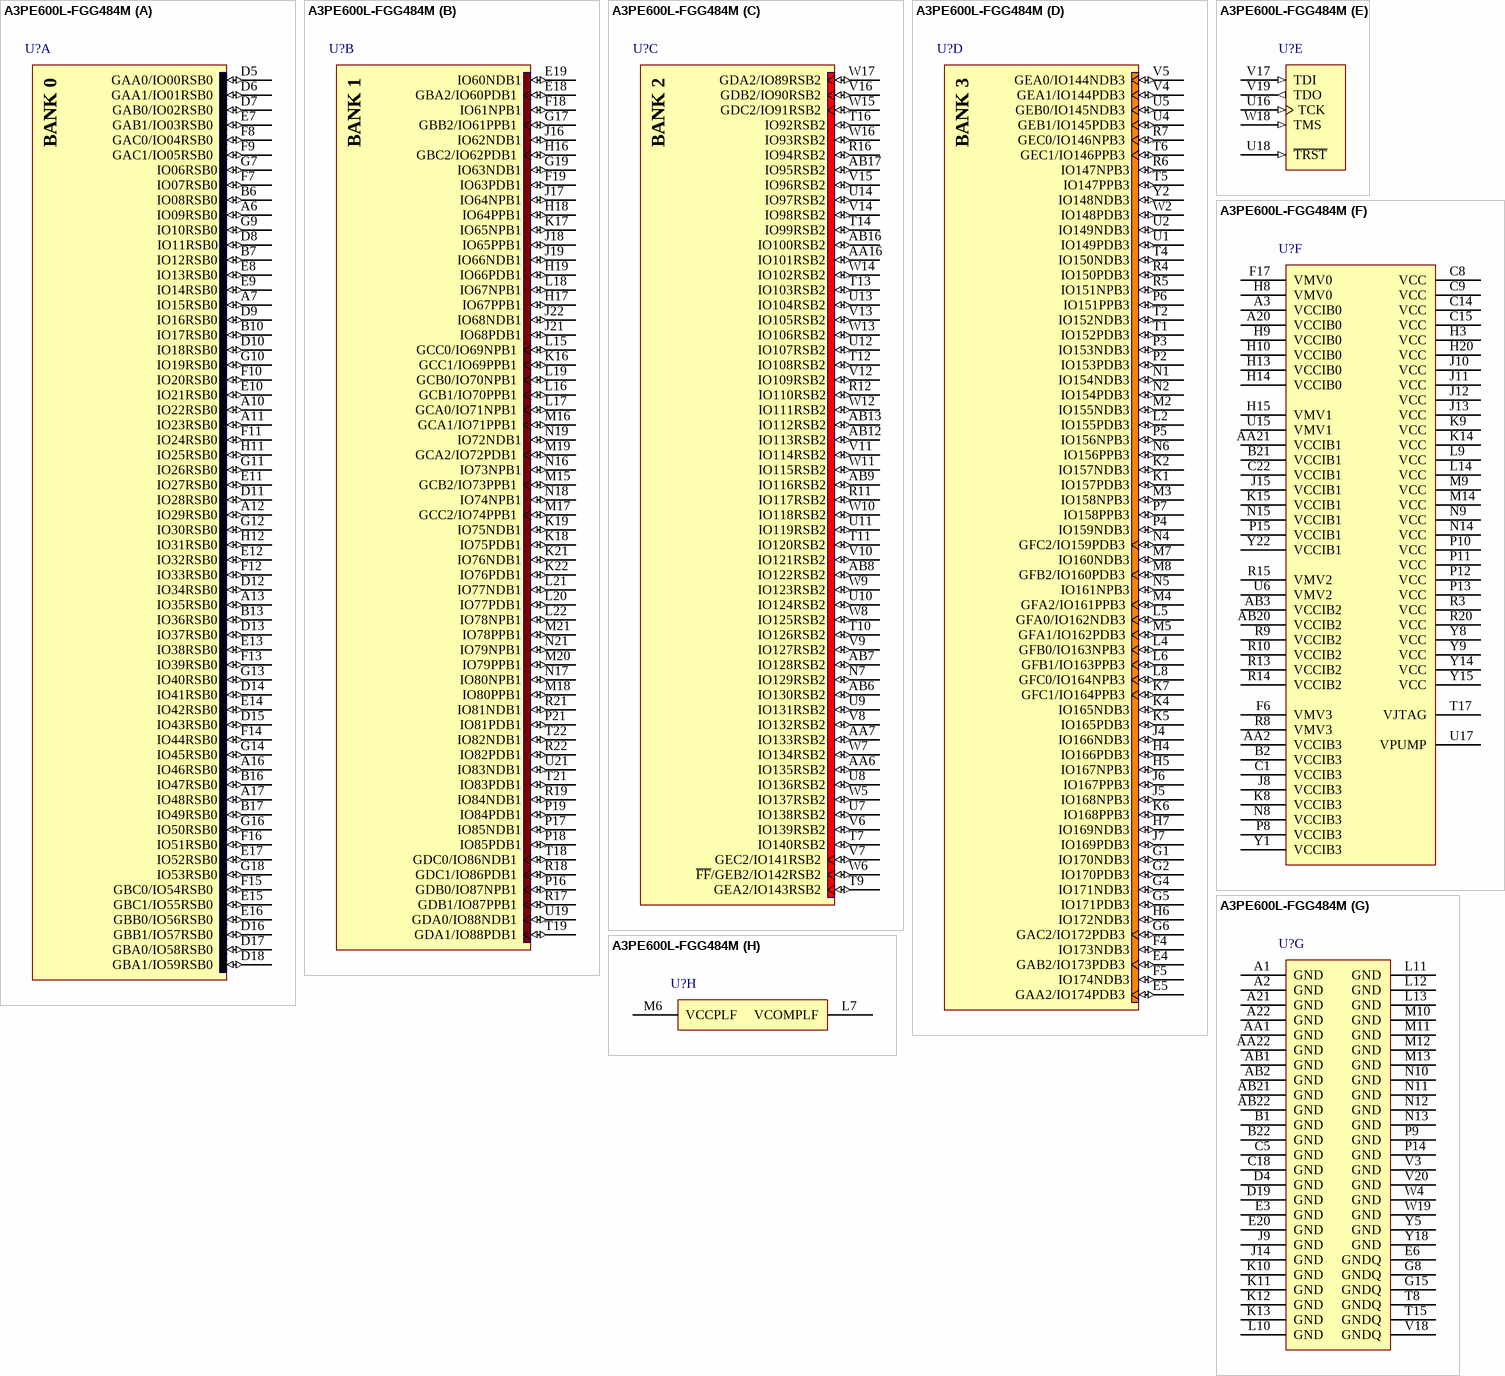
[diagram p77: symbol A3PE600L-FGG484M]

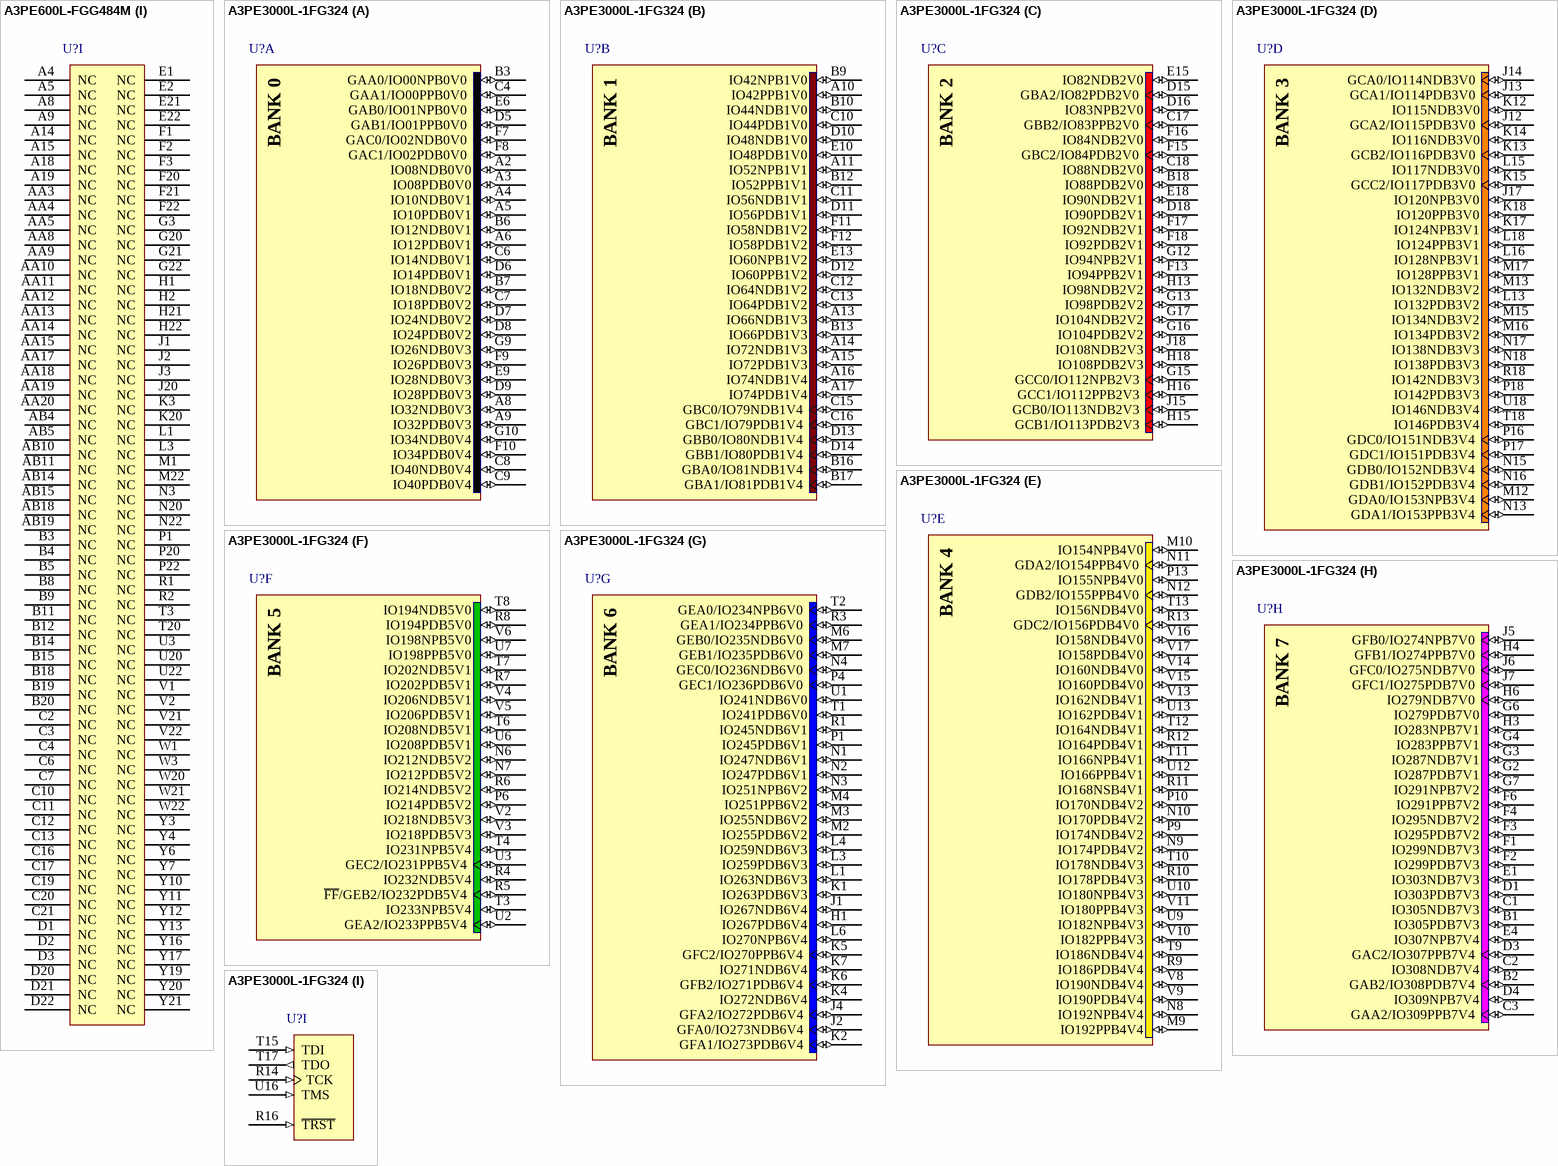
[diagram p78: symbols A3PE600L-FGG484M to A3PE3000L-1FG324]

## A3PE600L-FGG484M
designator U?
ProASIC3L Low-Power Flash Family FPGA, 270 User IOs, 600K System Gates, 108 Kbits RAM, 1 Kbit FlashROM, 6PLLs, 484-Ball FBGA, Military Grade, Pb-Free; Published: 11-Dec-2009; DatasheetVersion: v1.0, Aug-2008; PackageVersion: ver11.2, Nov-2009; PackageReference: FG484; Publisher: Altium Limited; PackageDescription: 484-Ball Fine Pitch Plastic Ball Grid Array (FG484) - Fully Populated; Code_JEDEC: MS-034-AAJ-1; Code_IPC: BGA100P22X22-484; ComponentLink1Description: ProASIC3 Datasheet; ComponentLink1URL: http://www.actel.com/documents/PA3L_DS.pdf; ComponentLink2Description: Package Mechanical Drawings; ComponentLink2URL: http://www.actel.com/documents/PckgMechDrwngs.pdf; ComponentLink3Description: ProASIC3 Documents; ComponentLink3URL: http://www.actel.com/products/pa3l/docs.aspx; ComponentLink4Description: Actel.com Home; ComponentLink4URL: http://www.actel.com/
footprint FG484 (BGA, 484-Leads, Body 23x23mm, Pitch 1mm)
signal-integrity model A3P600L_FG484 (ProASIC3L)
part A pins: A6 IO09RSB0 (io), A7 IO15RSB0 (io), A10 IO22RSB0 (io), A11 IO23RSB0 (io), A12 IO29RSB0 (io), A13 IO35RSB0 (io), A16 IO46RSB0 (io), A17 IO48RSB0 (io), B6 IO08RSB0 (io), B7 IO12RSB0 (io), B10 IO17RSB0 (io), B13 IO36RSB0 (io), B16 IO47RSB0 (io), B17 IO49RSB0 (io), D5 GAA0/IO00RSB0 (io), D6 GAA1/IO01RSB0 (io), D7 GAB0/IO02RSB0 (io), D8 IO11RSB0 (io), D9 IO16RSB0 (io), D10 IO18RSB0 (io), D11 IO28RSB0 (io), D12 IO34RSB0 (io), D13 IO37RSB0 (io), D14 IO41RSB0 (io), D15 IO43RSB0 (io), D16 GBB1/IO57RSB0 (io), D17 GBA0/IO58RSB0 (io), D18 GBA1/IO59RSB0 (io), E7 GAB1/IO03RSB0 (io), E8 IO13RSB0 (io), E9 IO14RSB0 (io), E10 IO21RSB0 (io), E11 IO27RSB0 (io), E12 IO32RSB0 (io), E13 IO38RSB0 (io), E14 IO42RSB0 (io), E15 GBC1/IO55RSB0 (io), E16 GBB0/IO56RSB0 (io), E17 IO52RSB0 (io), F7 IO07RSB0 (io), F8 GAC0/IO04RSB0 (io), F9 GAC1/IO05RSB0 (io), F10 IO20RSB0 (io), F11 IO24RSB0 (io), F12 IO33RSB0 (io), F13 IO39RSB0 (io), F14 IO44RSB0 (io), F15 GBC0/IO54RSB0 (io), F16 IO51RSB0 (io), G7 IO06RSB0 (io), G9 IO10RSB0 (io), G10 IO19RSB0 (io), G11 IO26RSB0 (io), G12 IO30RSB0 (io), G13 IO40RSB0 (io), G14 IO45RSB0 (io), G16 IO50RSB0 (io), G18 IO53RSB0 (io), H11 IO25RSB0 (io), H12 IO31RSB0 (io)
part B pins: E18 GBA2/IO60PDB1 (io), E19 IO60NDB1 (io), F18 IO61NPB1 (io), F19 IO63PDB1 (io), G17 GBB2/IO61PPB1 (io), G19 IO63NDB1 (io), H16 GBC2/IO62PDB1 (io), H17 IO67PPB1 (io), H18 IO64PPB1 (io), H19 IO66PDB1 (io), J16 IO62NDB1 (io), J17 IO64NPB1 (io), J18 IO65PPB1 (io), J19 IO66NDB1 (io), J21 IO68PDB1 (io), J22 IO68NDB1 (io), K16 GCC1/IO69PPB1 (io), K17 IO65NPB1 (io), K18 IO75PDB1 (io), K19 IO75NDB1 (io), K21 IO76NDB1 (io), K22 IO76PDB1 (io), L15 GCC0/IO69NPB1 (io), L16 GCB1/IO70PPB1 (io), L17 GCA0/IO71NPB1 (io), L18 IO67NPB1 (io), L19 GCB0/IO70NPB1 (io), L20 IO77PDB1 (io), L21 IO77NDB1 (io), L22 IO78NPB1 (io), M15 GCB2/IO73PPB1 (io), M16 GCA1/IO71PPB1 (io), M17 GCC2/IO74PPB1 (io), M18 IO80PPB1 (io), M19 GCA2/IO72PDB1 (io), M20 IO79PPB1 (io), M21 IO78PPB1 (io), N16 IO73NPB1 (io), N17 IO80NPB1 (io), N18 IO74NPB1 (io), N19 IO72NDB1 (io), N21 IO79NPB1 (io), P16 GDB0/IO87NPB1 (io), P17 IO85NDB1 (io), P18 IO85PDB1 (io), P19 IO84PDB1 (io), P21 IO81PDB1 (io), R17 GDB1/IO87PPB1 (io), R18 GDC1/IO86PDB1 (io), R19 IO84NDB1 (io), R21 IO81NDB1 (io), R22 IO82PDB1 (io), T18 GDC0/IO86NDB1 (io), T19 GDA1/IO88PDB1 (io), T21 IO83PDB1 (io), T22 IO82NDB1 (io), U19 GDA0/IO88NDB1 (io), U21 IO83NDB1 (io)
part C pins: AA6 IO135RSB2 (io), AA7 IO133RSB2 (io), AA16 IO101RSB2 (io), AB6 IO130RSB2 (io), AB7 IO128RSB2 (io), AB8 IO122RSB2 (io), AB9 IO116RSB2 (io), AB12 IO113RSB2 (io), AB13 IO112RSB2 (io), AB16 IO100RSB2 (io), AB17 IO95RSB2 (io), N7 IO129RSB2 (io), R11 IO117RSB2 (io), R12 IO110RSB2 (io), R16 IO94RSB2 (io), T7 IO140RSB2 (io), T9 GEA2/IO143RSB2 (io), T10 IO126RSB2 (io), T11 IO120RSB2 (io), T12 IO108RSB2 (io), T13 IO103RSB2 (io), T14 IO99RSB2 (io), T16 IO92RSB2 (io), U7 IO138RSB2 (io), U8 IO136RSB2 (io), U9 IO131RSB2 (io), U10 IO124RSB2 (io), U11 IO119RSB2 (io), U12 IO107RSB2 (io), U13 IO104RSB2 (io), U14 IO97RSB2 (io), V6 IO139RSB2 (io), V7 GEC2/IO141RSB2 (io), V8 IO132RSB2 (io), V9 IO127RSB2 (io), V10 IO121RSB2 (io), V11 IO114RSB2 (io), V12 IO109RSB2 (io), V13 IO105RSB2 (io), V14 IO98RSB2 (io), V15 IO96RSB2 (io), V16 GDB2/IO90RSB2 (io), W5 IO137RSB2 (io), W6 ~{FF}/GEB2/IO142RSB2 (io), W7 IO134RSB2 (io), W8 IO125RSB2 (io), W9 IO123RSB2 (io), W10 IO118RSB2 (io), W11 IO115RSB2 (io), W12 IO111RSB2 (io), W13 IO106RSB2 (io), W14 IO102RSB2 (io), W15 GDC2/IO91RSB2 (io), W16 IO93RSB2 (io), W17 GDA2/IO89RSB2 (io)
part D pins: E4 GAB2/IO173PDB3 (io), E5 GAA2/IO174PDB3 (io), F4 IO173NDB3 (io), F5 IO174NDB3 (io), G1 IO170NDB3 (io), G2 IO170PDB3 (io), G4 IO171NDB3 (io), G5 IO171PDB3 (io), G6 GAC2/IO172PDB3 (io), H4 IO166PDB3 (io), H5 IO167NPB3 (io), H6 IO172NDB3 (io), H7 IO169NDB3 (io), J4 IO166NDB3 (io), J5 IO168NPB3 (io), J6 IO167PPB3 (io), J7 IO169PDB3 (io), K1 IO157PDB3 (io), K2 IO157NDB3 (io), K4 IO165NDB3 (io), K5 IO165PDB3 (io), K6 IO168PPB3 (io), K7 GFC1/IO164PPB3 (io), L2 IO155PDB3 (io), L4 GFB0/IO163NPB3 (io), L5 GFA0/IO162NDB3 (io), L6 GFB1/IO163PPB3 (io), L8 GFC0/IO164NPB3 (io), M2 IO155NDB3 (io), M3 IO158NPB3 (io), M4 GFA2/IO161PPB3 (io), M5 GFA1/IO162PDB3 (io), M7 IO160NDB3 (io), M8 GFB2/IO160PDB3 (io), N1 IO154NDB3 (io), N2 IO154PDB3 (io), N4 GFC2/IO159PDB3 (io), N5 IO161NPB3 (io), N6 IO156PPB3 (io), P2 IO153PDB3 (io), P3 IO153NDB3 (io), P4 IO159NDB3 (io), P5 IO156NPB3 (io), P6 IO151PPB3 (io), P7 IO158PPB3 (io), R4 IO150PDB3 (io), R5 IO151NPB3 (io), R6 IO147NPB3 (io), R7 GEC0/IO146NPB3 (io), T1 IO152PDB3 (io), T2 IO152NDB3 (io), T4 IO150NDB3 (io), T5 IO147PPB3 (io), T6 GEC1/IO146PPB3 (io), U1 IO149PDB3 (io), U2 IO149NDB3 (io), U4 GEB1/IO145PDB3 (io), U5 GEB0/IO145NDB3 (io), V4 GEA1/IO144PDB3 (io), V5 GEA0/IO144NDB3 (io), W2 IO148PDB3 (io), Y2 IO148NDB3 (io)
part E pins: U16 TCK (in), U18 ~{TRST} (in), V17 TDI (in), V19 TDO (out), W18 TMS (in)
part F pins: A3 VCCIB0 (power), A20 VCCIB0 (power), AA2 VCCIB3 (power), AA21 VCCIB1 (power), AB3 VCCIB2 (power), AB20 VCCIB2 (power), B2 VCCIB3 (power), B21 VCCIB1 (power), C1 VCCIB3 (power), C8 VCC (power), C9 VCC (power), C14 VCC (power), C15 VCC (power), C22 VCCIB1 (power), F6 VMV3 (power), F17 VMV0 (power), H3 VCC (power), H8 VMV0 (power), H9 VCCIB0 (power), H10 VCCIB0 (power), H13 VCCIB0 (power), H14 VCCIB0 (power), H15 VMV1 (power), H20 VCC (power), J8 VCCIB3 (power), J10 VCC (power), J11 VCC (power), J12 VCC (power), J13 VCC (power), J15 VCCIB1 (power), K8 VCCIB3 (power), K9 VCC (power), K14 VCC (power), K15 VCCIB1 (power), L9 VCC (power), L14 VCC (power), M9 VCC (power), M14 VCC (power), N8 VCCIB3 (power), N9 VCC (power), N14 VCC (power), N15 VCCIB1 (power), P8 VCCIB3 (power), P10 VCC (power), P11 VCC (power), P12 VCC (power), P13 VCC (power), P15 VCCIB1 (power), R3 VCC (power), R8 VMV3 (power), R9 VCCIB2 (power), R10 VCCIB2 (power), R13 VCCIB2 (power), R14 VCCIB2 (power), R15 VMV2 (power), R20 VCC (power), T17 VJTAG (power), U6 VMV2 (power), U15 VMV1 (power), U17 VPUMP (power), Y1 VCCIB3 (power), Y8 VCC (power), Y9 VCC (power), Y14 VCC (power), Y15 VCC (power), Y22 VCCIB1 (power)
part G pins: A1 GND (power), A2 GND (power), A21 GND (power), A22 GND (power), AA1 GND (power), AA22 GND (power), AB1 GND (power), AB2 GND (power), AB21 GND (power), AB22 GND (power), B1 GND (power), B22 GND (power), C5 GND (power), C18 GND (power), D4 GND (power), D19 GND (power), E3 GND (power), E6 GNDQ (power), E20 GND (power), G8 GNDQ (power), G15 GNDQ (power), J9 GND (power), J14 GND (power), K10 GND (power), K11 GND (power), K12 GND (power), K13 GND (power), L10 GND (power), L11 GND (power), L12 GND (power), L13 GND (power), M10 GND (power), M11 GND (power), M12 GND (power), M13 GND (power), N10 GND (power), N11 GND (power), N12 GND (power), N13 GND (power), P9 GND (power), P14 GND (power), T8 GNDQ (power), T15 GNDQ (power), V3 GND (power), V18 GNDQ (power), V20 GND (power), W4 GND (power), W19 GND (power), Y5 GND (power), Y18 GND (power)
part H pins: L7 VCOMPLF (power), M6 VCCPLF (power)
part I pins: A4 NC, A5 NC, A8 NC, A9 NC, A14 NC, A15 NC, A18 NC, A19 NC, AA3 NC, AA4 NC, AA5 NC, AA8 NC, AA9 NC, AA10 NC, AA11 NC, AA12 NC, AA13 NC, AA14 NC, AA15 NC, AA17 NC, AA18 NC, AA19 NC, AA20 NC, AB4 NC, AB5 NC, AB10 NC, AB11 NC, AB14 NC, AB15 NC, AB18 NC, AB19 NC, B3 NC, B4 NC, B5 NC, B8 NC, B9 NC, B11 NC, B12 NC, B14 NC, B15 NC, B18 NC, B19 NC, B20 NC, C2 NC, C3 NC, C4 NC, C6 NC, C7 NC, C10 NC, C11 NC, C12 NC, C13 NC, C16 NC, C17 NC, C19 NC, C20 NC, C21 NC, D1 NC, D2 NC, D3 NC, D20 NC, D21 NC, D22 NC, E1 NC, E2 NC, E21 NC, E22 NC, F1 NC, F2 NC, F3 NC, F20 NC, F21 NC, F22 NC, G3 NC, G20 NC, G21 NC, G22 NC, H1 NC, H2 NC, H21 NC, H22 NC, J1 NC, J2 NC, J3 NC, J20 NC, K3 NC, K20 NC, L1 NC, L3 NC, M1 NC, M22 NC, N3 NC, N20 NC, N22 NC, P1 NC, P20 NC, P22 NC, R1 NC, R2 NC, T3 NC, T20 NC, U3 NC, U20 NC, U22 NC, V1 NC, V2 NC, V21 NC, V22 NC, W1 NC, W3 NC, W20 NC, W21 NC, W22 NC, Y3 NC, Y4 NC, Y6 NC, Y7 NC, Y10 NC, Y11 NC, Y12 NC, Y13 NC, Y16 NC, Y17 NC, Y19 NC, Y20 NC, Y21 NC
part A text: BANK 0
part B text: BANK 1
part C text: BANK 2
part D text: BANK 3

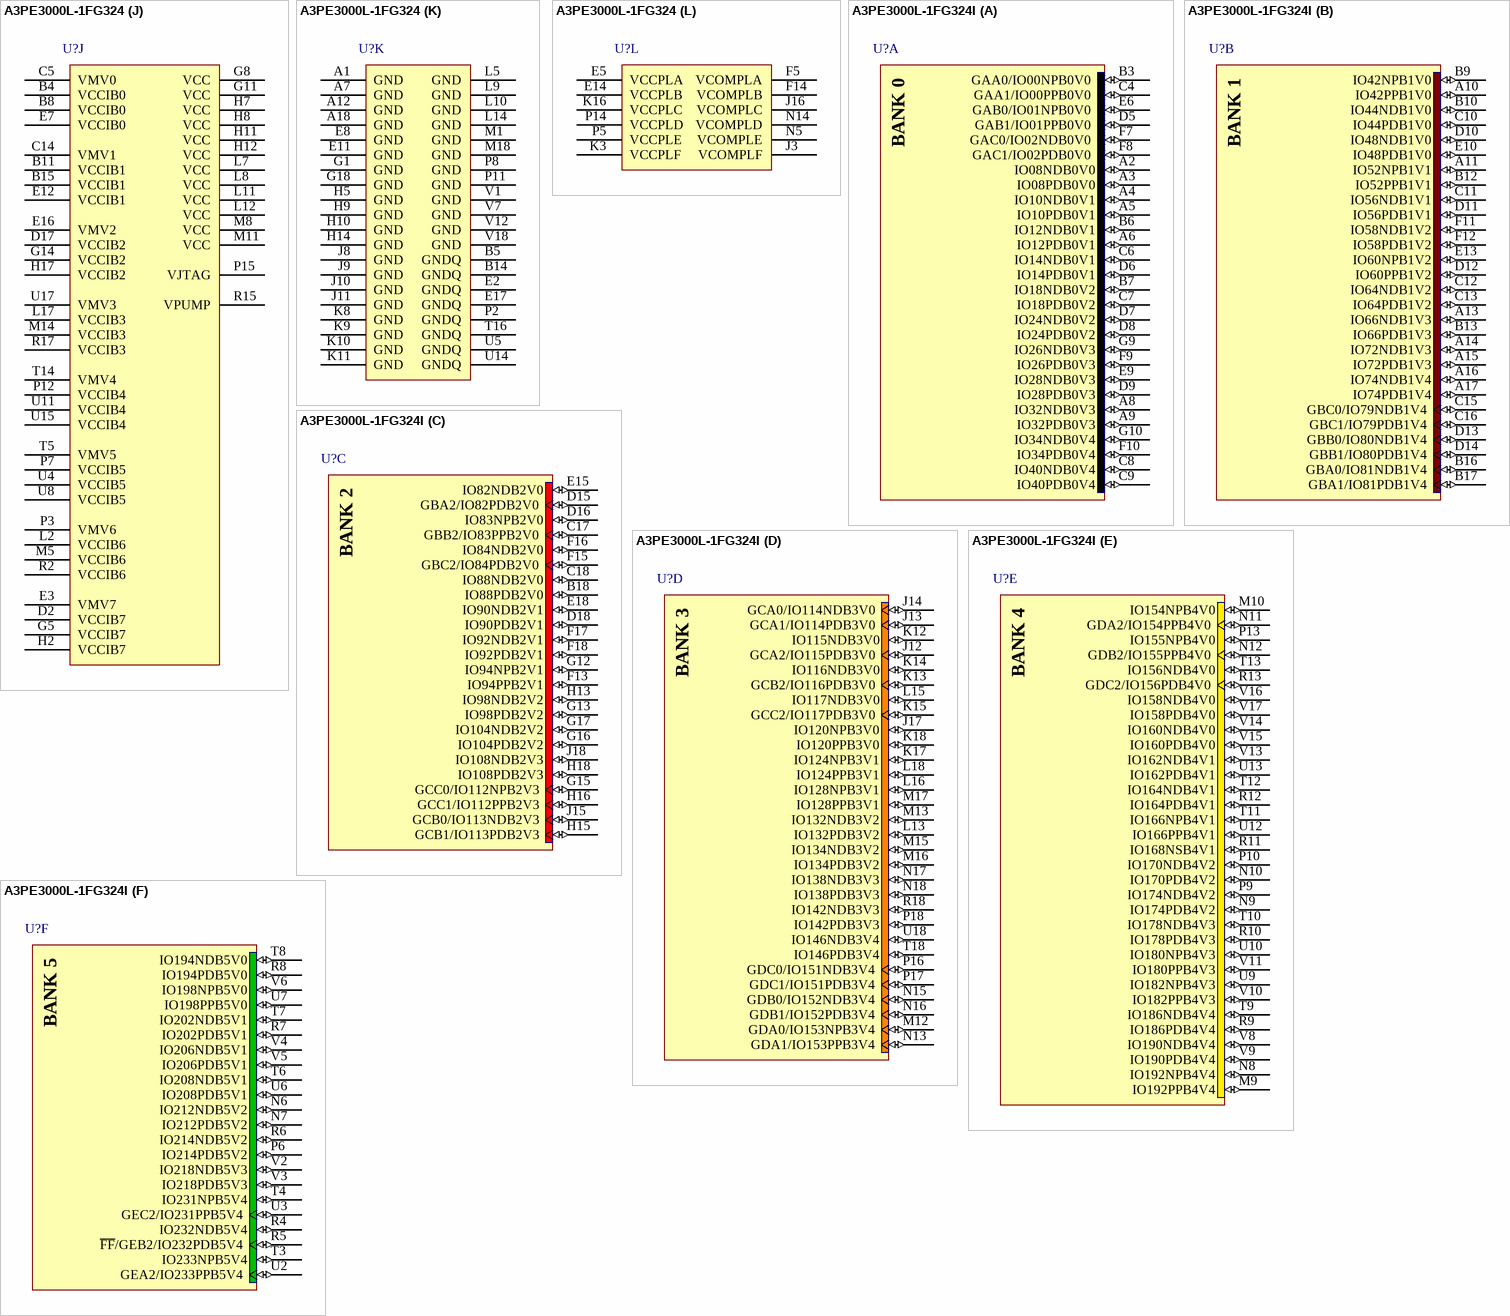
[diagram p79: symbols A3PE3000L-1FG324 to A3PE3000L-1FG324I]

## A3PE3000L-1FG324
designator U?
ProASIC3L Low-Power Flash Family FPGA, 221 User IOs, 3M System Gates, 504 Kbits RAM, 1 Kbit FlashROM, 6PLLs, 324-Ball FBGA, Commercial Grade; Published: 30-May-2008; LatestRevisionDate: 11-Dec-2009; LatestRevisionNote: Updated to datasheet version 1.3 Feb-2009. Changed schematic layout. Made FF and TRST pins active low.; DatasheetVersion: v1.3, Feb-2009; PackageVersion: ver11.2, Nov-2009; PackageReference: FG324; Publisher: Altium Limited; PackageDescription: 324-Ball Fine Pitch Plastic Ball Grid Array (FG324); Code_JEDEC: MS-034-AAG-1; Code_IPC: BGA100P18X18-324; ComponentLink1Description: ProASIC3 Datasheet; ComponentLink1URL: http://www.actel.com/documents/PA3L_DS.pdf; ComponentLink2Description: Package Mechanical Drawings; ComponentLink2URL: http://www.actel.com/documents/PckgMechDrwngs.pdf; ComponentLink3Description: ProASIC3 Documents; ComponentLink3URL: http://www.actel.com/products/pa3l/docs.aspx; ComponentLink4Description: Actel.com Home; ComponentLink4URL: http://www.actel.com/
footprint FG324 (BGA, 324-Leads, Body 19x19mm, Pitch 1mm)
signal-integrity model A3PE3000L_FG324 (ProASIC3L)
part A pins: A2 IO08NDB0V0 (io), A3 IO08PDB0V0 (io), A4 IO10NDB0V1 (io), A5 IO10PDB0V1 (io), A6 IO12PDB0V1 (io), A8 IO32NDB0V3 (io), A9 IO32PDB0V3 (io), B3 GAA0/IO00NPB0V0 (io), B6 IO12NDB0V1 (io), B7 IO18NDB0V2 (io), C4 GAA1/IO00PPB0V0 (io), C6 IO14NDB0V1 (io), C7 IO18PDB0V2 (io), C8 IO40NDB0V4 (io), C9 IO40PDB0V4 (io), D5 GAB1/IO01PPB0V0 (io), D6 IO14PDB0V1 (io), D7 IO24NDB0V2 (io), D8 IO24PDB0V2 (io), D9 IO28PDB0V3 (io), E6 GAB0/IO01NPB0V0 (io), E9 IO28NDB0V3 (io), F7 GAC0/IO02NDB0V0 (io), F8 GAC1/IO02PDB0V0 (io), F9 IO26PDB0V3 (io), F10 IO34PDB0V4 (io), G9 IO26NDB0V3 (io), G10 IO34NDB0V4 (io)
part B pins: A10 IO42PPB1V0 (io), A11 IO52NPB1V1 (io), A13 IO66NDB1V3 (io), A14 IO72NDB1V3 (io), A15 IO72PDB1V3 (io), A16 IO74NDB1V4 (io), A17 IO74PDB1V4 (io), B9 IO42NPB1V0 (io), B10 IO44NDB1V0 (io), B12 IO52PPB1V1 (io), B13 IO66PDB1V3 (io), B16 GBA0/IO81NDB1V4 (io), B17 GBA1/IO81PDB1V4 (io), C10 IO44PDB1V0 (io), C11 IO56NDB1V1 (io), C12 IO64NDB1V2 (io), C13 IO64PDB1V2 (io), C15 GBC0/IO79NDB1V4 (io), C16 GBC1/IO79PDB1V4 (io), D10 IO48NDB1V0 (io), D11 IO56PDB1V1 (io), D12 IO60PPB1V2 (io), D13 GBB0/IO80NDB1V4 (io), D14 GBB1/IO80PDB1V4 (io), E10 IO48PDB1V0 (io), E13 IO60NPB1V2 (io), F11 IO58NDB1V2 (io), F12 IO58PDB1V2 (io)
part C pins: B18 IO88PDB2V0 (io), C17 GBB2/IO83PPB2V0 (io), C18 IO88NDB2V0 (io), D15 GBA2/IO82PDB2V0 (io), D16 IO83NPB2V0 (io), D18 IO90PDB2V1 (io), E15 IO82NDB2V0 (io), E18 IO90NDB2V1 (io), F13 IO94PPB2V1 (io), F15 GBC2/IO84PDB2V0 (io), F16 IO84NDB2V0 (io), F17 IO92NDB2V1 (io), F18 IO92PDB2V1 (io), G12 IO94NPB2V1 (io), G13 IO98PDB2V2 (io), G15 GCC0/IO112NPB2V3 (io), G16 IO104PDB2V2 (io), G17 IO104NDB2V2 (io), H13 IO98NDB2V2 (io), H15 GCB1/IO113PDB2V3 (io), H16 GCC1/IO112PPB2V3 (io), H18 IO108PDB2V3 (io), J15 GCB0/IO113NDB2V3 (io), J18 IO108NDB2V3 (io)
part D pins: J12 GCA2/IO115PDB3V0 (io), J13 GCA1/IO114PDB3V0 (io), J14 GCA0/IO114NDB3V0 (io), J17 IO120NPB3V0 (io), K12 IO115NDB3V0 (io), K13 GCB2/IO116PDB3V0 (io), K14 IO116NDB3V0 (io), K15 GCC2/IO117PDB3V0 (io), K17 IO124NPB3V1 (io), K18 IO120PPB3V0 (io), L13 IO132PDB3V2 (io), L15 IO117NDB3V0 (io), L16 IO128NPB3V1 (io), L18 IO124PPB3V1 (io), M12 GDA0/IO153NPB3V4 (io), M13 IO132NDB3V2 (io), M15 IO134NDB3V2 (io), M16 IO134PDB3V2 (io), M17 IO128PPB3V1 (io), N13 GDA1/IO153PPB3V4 (io), N15 GDB0/IO152NDB3V4 (io), N16 GDB1/IO152PDB3V4 (io), N17 IO138NDB3V3 (io), N18 IO138PDB3V3 (io), P16 GDC0/IO151NDB3V4 (io), P17 GDC1/IO151PDB3V4 (io), P18 IO142PDB3V3 (io), R18 IO142NDB3V3 (io), T18 IO146PDB3V4 (io), U18 IO146NDB3V4 (io)
part E pins: M9 IO192PPB4V4 (io), M10 IO154NPB4V0 (io), N8 IO192NPB4V4 (io), N9 IO174PDB4V2 (io), N10 IO170PDB4V2 (io), N11 GDA2/IO154PPB4V0 (io), N12 GDB2/IO155PPB4V0 (io), P9 IO174NDB4V2 (io), P10 IO170NDB4V2 (io), P13 IO155NPB4V0 (io), R9 IO186PDB4V4 (io), R10 IO178PDB4V3 (io), R11 IO168NSB4V1 (io), R12 IO164PDB4V1 (io), R13 GDC2/IO156PDB4V0 (io), T9 IO186NDB4V4 (io), T10 IO178NDB4V3 (io), T11 IO166NPB4V1 (io), T12 IO164NDB4V1 (io), T13 IO156NDB4V0 (io), U9 IO182NPB4V3 (io), U10 IO180NPB4V3 (io), U12 IO166PPB4V1 (io), U13 IO162PDB4V1 (io), V8 IO190NDB4V4 (io), V9 IO190PDB4V4 (io), V10 IO182PPB4V3 (io), V11 IO180PPB4V3 (io), V13 IO162NDB4V1 (io), V14 IO160NDB4V0 (io), V15 IO160PDB4V0 (io), V16 IO158NDB4V0 (io), V17 IO158PDB4V0 (io)
part F pins: N6 IO212NDB5V2 (io), N7 IO212PDB5V2 (io), P6 IO214PDB5V2 (io), R4 IO232NDB5V4 (io), R5 ~{FF}/GEB2/IO232PDB5V4 (io), R6 IO214NDB5V2 (io), R7 IO202PDB5V1 (io), R8 IO194PDB5V0 (io), T3 IO233NPB5V4 (io), T4 IO231NPB5V4 (io), T6 IO208NDB5V1 (io), T7 IO202NDB5V1 (io), T8 IO194NDB5V0 (io), U2 GEA2/IO233PPB5V4 (io), U3 GEC2/IO231PPB5V4 (io), U6 IO208PDB5V1 (io), U7 IO198PPB5V0 (io), V2 IO218NDB5V3 (io), V3 IO218PDB5V3 (io), V4 IO206NDB5V1 (io), V5 IO206PDB5V1 (io), V6 IO198NPB5V0 (io)
part G pins: H1 IO267PDB6V4 (io), J1 IO267NDB6V4 (io), J2 GFA0/IO273NDB6V4 (io), J4 GFA2/IO272PDB6V4 (io), K1 IO263PDB6V3 (io), K2 GFA1/IO273PDB6V4 (io), K4 IO272NDB6V4 (io), K5 GFC2/IO270PPB6V4 (io), K6 GFB2/IO271PDB6V4 (io), K7 IO271NDB6V4 (io), L1 IO263NDB6V3 (io), L3 IO259PDB6V3 (io), L4 IO259NDB6V3 (io), L6 IO270NPB6V4 (io), M2 IO255PDB6V2 (io), M3 IO255NDB6V2 (io), M4 IO251PPB6V2 (io), M6 GEB0/IO235NDB6V0 (io), M7 GEB1/IO235PDB6V0 (io), N1 IO247NDB6V1 (io), N2 IO247PDB6V1 (io), N3 IO251NPB6V2 (io), N4 GEC0/IO236NDB6V0 (io), P1 IO245PDB6V1 (io), P4 GEC1/IO236PDB6V0 (io), R1 IO245NDB6V1 (io), R3 GEA1/IO234PPB6V0 (io), T1 IO241PDB6V0 (io), T2 GEA0/IO234NPB6V0 (io), U1 IO241NDB6V0 (io)
part H pins: B1 IO305PDB7V3 (io), B2 GAB2/IO308PDB7V4 (io), C1 IO305NDB7V3 (io), C2 IO308NDB7V4 (io), C3 GAA2/IO309PPB7V4 (io), D1 IO303PDB7V3 (io), D3 GAC2/IO307PPB7V4 (io), D4 IO309NPB7V4 (io), E1 IO303NDB7V3 (io), E4 IO307NPB7V4 (io), F1 IO299NDB7V3 (io), F2 IO299PDB7V3 (io), F3 IO295PDB7V2 (io), F4 IO295NDB7V2 (io), F6 IO291PPB7V2 (io), G2 IO287PDB7V1 (io), G3 IO287NDB7V1 (io), G4 IO283PPB7V1 (io), G6 IO279PDB7V0 (io), G7 IO291NPB7V2 (io), H3 IO283NPB7V1 (io), H4 GFB1/IO274PPB7V0 (io), H6 IO279NDB7V0 (io), J5 GFB0/IO274NPB7V0 (io), J6 GFC0/IO275NDB7V0 (io), J7 GFC1/IO275PDB7V0 (io)
part I pins: R14 TCK (in), R16 ~{TRST} (in), T15 TDI (in), T17 TDO (out), U16 TMS (in)
part J pins: B4 VCCIB0 (power), B8 VCCIB0 (power), B11 VCCIB1 (power), B15 VCCIB1 (power), C5 VMV0 (power), C14 VMV1 (power), D2 VCCIB7 (power), D17 VCCIB2 (power), E3 VMV7 (power), E7 VCCIB0 (power), E12 VCCIB1 (power), E16 VMV2 (power), G5 VCCIB7 (power), G8 VCC (power), G11 VCC (power), G14 VCCIB2 (power), H2 VCCIB7 (power), H7 VCC (power), H8 VCC (power), H11 VCC (power), H12 VCC (power), H17 VCCIB2 (power), L2 VCCIB6 (power), L7 VCC (power), L8 VCC (power), L11 VCC (power), L12 VCC (power), L17 VCCIB3 (power), M5 VCCIB6 (power), M8 VCC (power), M11 VCC (power), M14 VCCIB3 (power), P3 VMV6 (power), P7 VCCIB5 (power), P12 VCCIB4 (power), P15 VJTAG (power), R2 VCCIB6 (power), R15 VPUMP (power), R17 VCCIB3 (power), T5 VMV5 (power), T14 VMV4 (power), U4 VCCIB5 (power), U8 VCCIB5 (power), U11 VCCIB4 (power), U15 VCCIB4 (power), U17 VMV3 (power)
part K pins: A1 GND (power), A7 GND (power), A12 GND (power), A18 GND (power), B5 GNDQ (power), B14 GNDQ (power), E2 GNDQ (power), E8 GND (power), E11 GND (power), E17 GNDQ (power), G1 GND (power), G18 GND (power), H5 GND (power), H9 GND (power), H10 GND (power), H14 GND (power), J8 GND (power), J9 GND (power), J10 GND (power), J11 GND (power), K8 GND (power), K9 GND (power), K10 GND (power), K11 GND (power), L5 GND (power), L9 GND (power), L10 GND (power), L14 GND (power), M1 GND (power), M18 GND (power), P2 GNDQ (power), P8 GND (power), P11 GND (power), T16 GNDQ (power), U5 GNDQ (power), U14 GNDQ (power), V1 GND (power), V7 GND (power), V12 GND (power), V18 GND (power)
part L pins: E5 VCCPLA (power), E14 VCCPLB (power), F5 VCOMPLA (power), F14 VCOMPLB (power), J3 VCOMPLF (power), J16 VCOMPLC (power), K3 VCCPLF (power), K16 VCCPLC (power), N5 VCOMPLE (power), N14 VCOMPLD (power), P5 VCCPLE (power), P14 VCCPLD (power)
part A text: BANK 0
part B text: BANK 1
part C text: BANK 2
part D text: BANK 3
part E text: BANK 4
part F text: BANK 5
part G text: BANK 6
part H text: BANK 7

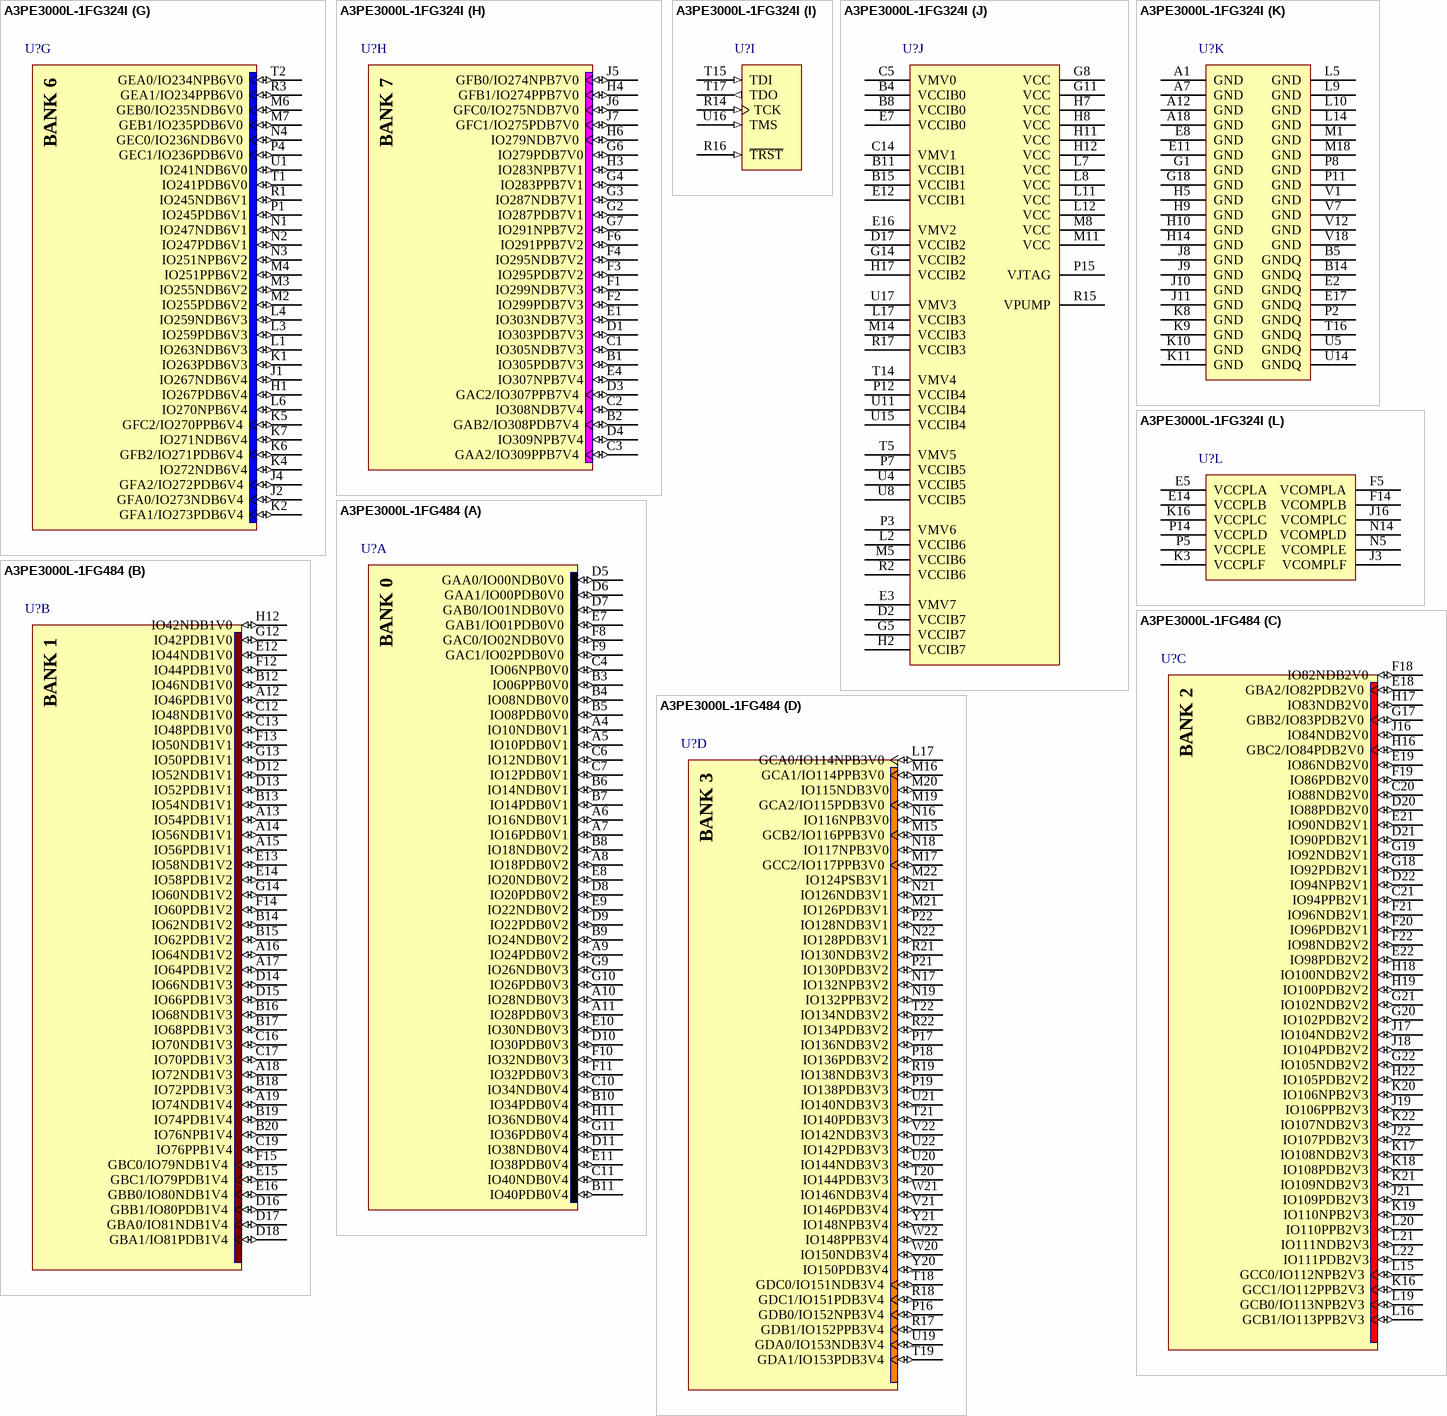
[diagram p80: symbols A3PE3000L-1FG324I to A3PE3000L-1FG484]